# Altium schematic symbol library aiskylab-MCUs.SchLib: 242 symbols (part 3 of 21)
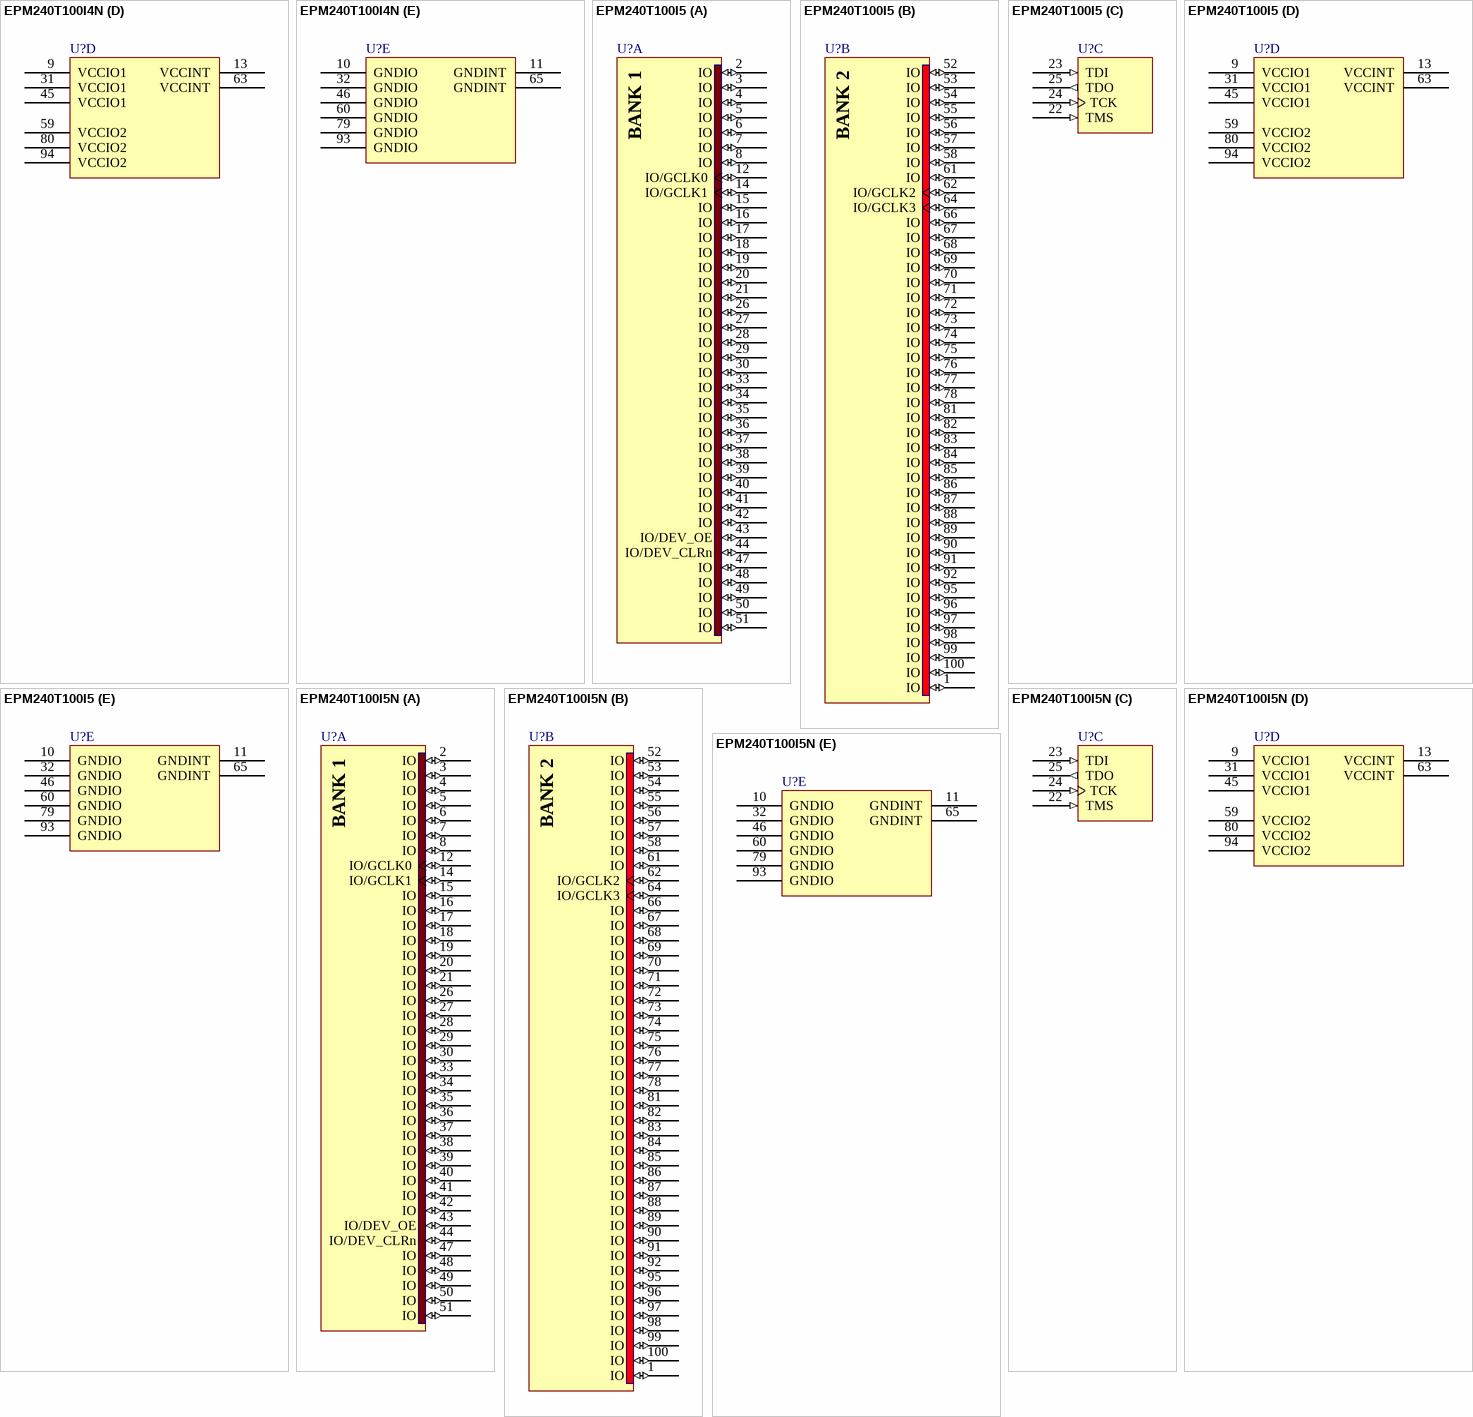
[diagram p166: symbols EPM240T100I4N to EPM240T100I5N]

## EPM240T100I4N
designator U?
MAX II 3.3/2.5V CPLD, 80 IOs, 240 Logic Elements, 100-Pin Plastic TQFP, Industrial Temperature, Speed Grade 4, Pb-Free; Note: Each set of VCCIO pins can be connected to 3.3V, 2.5V, 1.8V, or 1.5V.; Note: All VCCINT pins must be connected to either 3.3V or 2.5V (but not a combination of both).; Published: 18-Aug-2005; LatestRevisionDate: 13-Apr-2006; LatestRevisionNote: IPC-7351 Footprint Added.; DatasheetVersion: ver1.8, Jul-2006; PackageVersion: ver15.1, May-2008; PackageReference: TQFP100; Publisher: Altium Limited; PackageDescription: 100-Pin Plastic Thin Quad Flat Pack (TQFP100) - Wire Bond; Code_JEDEC: MS-026-AED; ComponentLink1Description: Manufacturer Link; ComponentLink1URL: http://www.altera.com/products/devices/cpld/max2/mx2-index.jsp; ComponentLink2Description: Handbook; ComponentLink2URL: http://www.altera.com/literature/hb/max2/max2_mii5v1.pdf; ComponentLink3Description: Packaging Specification; ComponentLink3URL: http://www.altera.com/literature/ds/dspkg.pdf
footprint TQFP100_N (Thin QFP, 100-Leads, Body 14x14mm, Pitch 0.5mm, IPC Medium Density)
footprint TQFP100_L (Thin QFP, 100-Leads, Body 14x14mm, Pitch 0.5mm, IPC High Density)
footprint TQFP100_M (Thin QFP, 100-Leads, Body 14x14mm, Pitch 0.5mm, IPC Low Density)
3D model EPM240-TQFP100 (100-Pin Plastic Thin Quad Flat Pack (TQFP100) - Wire Bond)
part A pins: 2 IO (io), 3 IO (io), 4 IO (io), 5 IO (io), 6 IO (io), 7 IO (io), 8 IO (io), 12 IO/GCLK0 (io), 14 IO/GCLK1 (io), 15 IO (io), 16 IO (io), 17 IO (io), 18 IO (io), 19 IO (io), 20 IO (io), 21 IO (io), 26 IO (io), 27 IO (io), 28 IO (io), 29 IO (io), 30 IO (io), 33 IO (io), 34 IO (io), 35 IO (io), 36 IO (io), 37 IO (io), 38 IO (io), 39 IO (io), 40 IO (io), 41 IO (io), 42 IO (io), 43 IO/DEV_OE (io), 44 IO/DEV_CLRn (io), 47 IO (io), 48 IO (io), 49 IO (io), 50 IO (io), 51 IO (io)
part B pins: 1 IO (io), 52 IO (io), 53 IO (io), 54 IO (io), 55 IO (io), 56 IO (io), 57 IO (io), 58 IO (io), 61 IO (io), 62 IO/GCLK2 (io), 64 IO/GCLK3 (io), 66 IO (io), 67 IO (io), 68 IO (io), 69 IO (io), 70 IO (io), 71 IO (io), 72 IO (io), 73 IO (io), 74 IO (io), 75 IO (io), 76 IO (io), 77 IO (io), 78 IO (io), 81 IO (io), 82 IO (io), 83 IO (io), 84 IO (io), 85 IO (io), 86 IO (io), 87 IO (io), 88 IO (io), 89 IO (io), 90 IO (io), 91 IO (io), 92 IO (io), 95 IO (io), 96 IO (io), 97 IO (io), 98 IO (io), 99 IO (io), 100 IO (io)
part C pins: 22 TMS (in), 23 TDI (in), 24 TCK (in), 25 TDO (out)
part D pins: 9 VCCIO1 (power), 13 VCCINT (power), 31 VCCIO1 (power), 45 VCCIO1 (power), 59 VCCIO2 (power), 63 VCCINT (power), 80 VCCIO2 (power), 94 VCCIO2 (power)
part E pins: 10 GNDIO (power), 11 GNDINT (power), 32 GNDIO (power), 46 GNDIO (power), 60 GNDIO (power), 65 GNDINT (power), 79 GNDIO (power), 93 GNDIO (power)
part A text: BANK 1
part B text: BANK 2

## EPM240T100I5
designator U?
MAX II 3.3/2.5V CPLD, 80 IOs, 240 Logic Elements, 100-Pin Plastic TQFP, Industrial Temperature, Speed Grade 5; Note: Each set of VCCIO pins can be connected to 3.3V, 2.5V, 1.8V, or 1.5V.; Note: All VCCINT pins must be connected to either 3.3V or 2.5V (but not a combination of both).; Published: 18-Aug-2005; LatestRevisionDate: 13-Apr-2006; LatestRevisionNote: IPC-7351 Footprint Added.; DatasheetVersion: ver1.8, Jul-2006; PackageVersion: ver15.1, May-2008; PackageReference: TQFP100; Publisher: Altium Limited; PackageDescription: 100-Pin Plastic Thin Quad Flat Pack (TQFP100) - Wire Bond; Supplier 1: Digi-Key; Supplier Part Number 1: 544-1965-ND; Code_JEDEC: MS-026-AED; ComponentLink1Description: Manufacturer Link; ComponentLink1URL: http://www.altera.com/products/devices/cpld/max2/mx2-index.jsp; ComponentLink2Description: Handbook; ComponentLink2URL: http://www.altera.com/literature/hb/max2/max2_mii5v1.pdf; ComponentLink3Description: Packaging Specification; ComponentLink3URL: http://www.altera.com/literature/ds/dspkg.pdf
footprint TQFP100_N (Thin QFP, 100-Leads, Body 14x14mm, Pitch 0.5mm, IPC Medium Density)
footprint TQFP100_L (Thin QFP, 100-Leads, Body 14x14mm, Pitch 0.5mm, IPC High Density)
footprint TQFP100_M (Thin QFP, 100-Leads, Body 14x14mm, Pitch 0.5mm, IPC Low Density)
3D model EPM240-TQFP100 (100-Pin Plastic Thin Quad Flat Pack (TQFP100) - Wire Bond)
part A pins: 2 IO (io), 3 IO (io), 4 IO (io), 5 IO (io), 6 IO (io), 7 IO (io), 8 IO (io), 12 IO/GCLK0 (io), 14 IO/GCLK1 (io), 15 IO (io), 16 IO (io), 17 IO (io), 18 IO (io), 19 IO (io), 20 IO (io), 21 IO (io), 26 IO (io), 27 IO (io), 28 IO (io), 29 IO (io), 30 IO (io), 33 IO (io), 34 IO (io), 35 IO (io), 36 IO (io), 37 IO (io), 38 IO (io), 39 IO (io), 40 IO (io), 41 IO (io), 42 IO (io), 43 IO/DEV_OE (io), 44 IO/DEV_CLRn (io), 47 IO (io), 48 IO (io), 49 IO (io), 50 IO (io), 51 IO (io)
part B pins: 1 IO (io), 52 IO (io), 53 IO (io), 54 IO (io), 55 IO (io), 56 IO (io), 57 IO (io), 58 IO (io), 61 IO (io), 62 IO/GCLK2 (io), 64 IO/GCLK3 (io), 66 IO (io), 67 IO (io), 68 IO (io), 69 IO (io), 70 IO (io), 71 IO (io), 72 IO (io), 73 IO (io), 74 IO (io), 75 IO (io), 76 IO (io), 77 IO (io), 78 IO (io), 81 IO (io), 82 IO (io), 83 IO (io), 84 IO (io), 85 IO (io), 86 IO (io), 87 IO (io), 88 IO (io), 89 IO (io), 90 IO (io), 91 IO (io), 92 IO (io), 95 IO (io), 96 IO (io), 97 IO (io), 98 IO (io), 99 IO (io), 100 IO (io)
part C pins: 22 TMS (in), 23 TDI (in), 24 TCK (in), 25 TDO (out)
part D pins: 9 VCCIO1 (power), 13 VCCINT (power), 31 VCCIO1 (power), 45 VCCIO1 (power), 59 VCCIO2 (power), 63 VCCINT (power), 80 VCCIO2 (power), 94 VCCIO2 (power)
part E pins: 10 GNDIO (power), 11 GNDINT (power), 32 GNDIO (power), 46 GNDIO (power), 60 GNDIO (power), 65 GNDINT (power), 79 GNDIO (power), 93 GNDIO (power)
part A text: BANK 1
part B text: BANK 2

## EPM240T100I5N
designator U?
MAX II 3.3/2.5V CPLD, 80 IOs, 240 Logic Elements, 100-Pin Plastic TQFP, Industrial Temperature, Speed Grade 5, Pb-Free; Note: Each set of VCCIO pins can be connected to 3.3V, 2.5V, 1.8V, or 1.5V.; Note: All VCCINT pins must be connected to either 3.3V or 2.5V (but not a combination of both).; Published: 18-Aug-2005; LatestRevisionDate: 13-Apr-2006; LatestRevisionNote: IPC-7351 Footprint Added.; DatasheetVersion: ver1.8, Jul-2006; PackageVersion: ver15.1, May-2008; PackageReference: TQFP100; Publisher: Altium Limited; PackageDescription: 100-Pin Plastic Thin Quad Flat Pack (TQFP100) - Wire Bond; Supplier 1: Digi-Key; Supplier Part Number 1: 544-2276-ND; Supplier 2: Farnell; Supplier Part Number 2: 1549468; Code_JEDEC: MS-026-AED; ComponentLink1Description: Manufacturer Link; ComponentLink1URL: http://www.altera.com/products/devices/cpld/max2/mx2-index.jsp; ComponentLink2Description: Handbook; ComponentLink2URL: http://www.altera.com/literature/hb/max2/max2_mii5v1.pdf; ComponentLink3Description: Packaging Specification; ComponentLink3URL: http://www.altera.com/literature/ds/dspkg.pdf
footprint TQFP100_N (Thin QFP, 100-Leads, Body 14x14mm, Pitch 0.5mm, IPC Medium Density)
footprint TQFP100_L (Thin QFP, 100-Leads, Body 14x14mm, Pitch 0.5mm, IPC High Density)
footprint TQFP100_M (Thin QFP, 100-Leads, Body 14x14mm, Pitch 0.5mm, IPC Low Density)
3D model EPM240-TQFP100 (100-Pin Plastic Thin Quad Flat Pack (TQFP100) - Wire Bond)
part A pins: 2 IO (io), 3 IO (io), 4 IO (io), 5 IO (io), 6 IO (io), 7 IO (io), 8 IO (io), 12 IO/GCLK0 (io), 14 IO/GCLK1 (io), 15 IO (io), 16 IO (io), 17 IO (io), 18 IO (io), 19 IO (io), 20 IO (io), 21 IO (io), 26 IO (io), 27 IO (io), 28 IO (io), 29 IO (io), 30 IO (io), 33 IO (io), 34 IO (io), 35 IO (io), 36 IO (io), 37 IO (io), 38 IO (io), 39 IO (io), 40 IO (io), 41 IO (io), 42 IO (io), 43 IO/DEV_OE (io), 44 IO/DEV_CLRn (io), 47 IO (io), 48 IO (io), 49 IO (io), 50 IO (io), 51 IO (io)
part B pins: 1 IO (io), 52 IO (io), 53 IO (io), 54 IO (io), 55 IO (io), 56 IO (io), 57 IO (io), 58 IO (io), 61 IO (io), 62 IO/GCLK2 (io), 64 IO/GCLK3 (io), 66 IO (io), 67 IO (io), 68 IO (io), 69 IO (io), 70 IO (io), 71 IO (io), 72 IO (io), 73 IO (io), 74 IO (io), 75 IO (io), 76 IO (io), 77 IO (io), 78 IO (io), 81 IO (io), 82 IO (io), 83 IO (io), 84 IO (io), 85 IO (io), 86 IO (io), 87 IO (io), 88 IO (io), 89 IO (io), 90 IO (io), 91 IO (io), 92 IO (io), 95 IO (io), 96 IO (io), 97 IO (io), 98 IO (io), 99 IO (io), 100 IO (io)
part C pins: 22 TMS (in), 23 TDI (in), 24 TCK (in), 25 TDO (out)
part D pins: 9 VCCIO1 (power), 13 VCCINT (power), 31 VCCIO1 (power), 45 VCCIO1 (power), 59 VCCIO2 (power), 63 VCCINT (power), 80 VCCIO2 (power), 94 VCCIO2 (power)
part E pins: 10 GNDIO (power), 11 GNDINT (power), 32 GNDIO (power), 46 GNDIO (power), 60 GNDIO (power), 65 GNDINT (power), 79 GNDIO (power), 93 GNDIO (power)
part A text: BANK 1
part B text: BANK 2

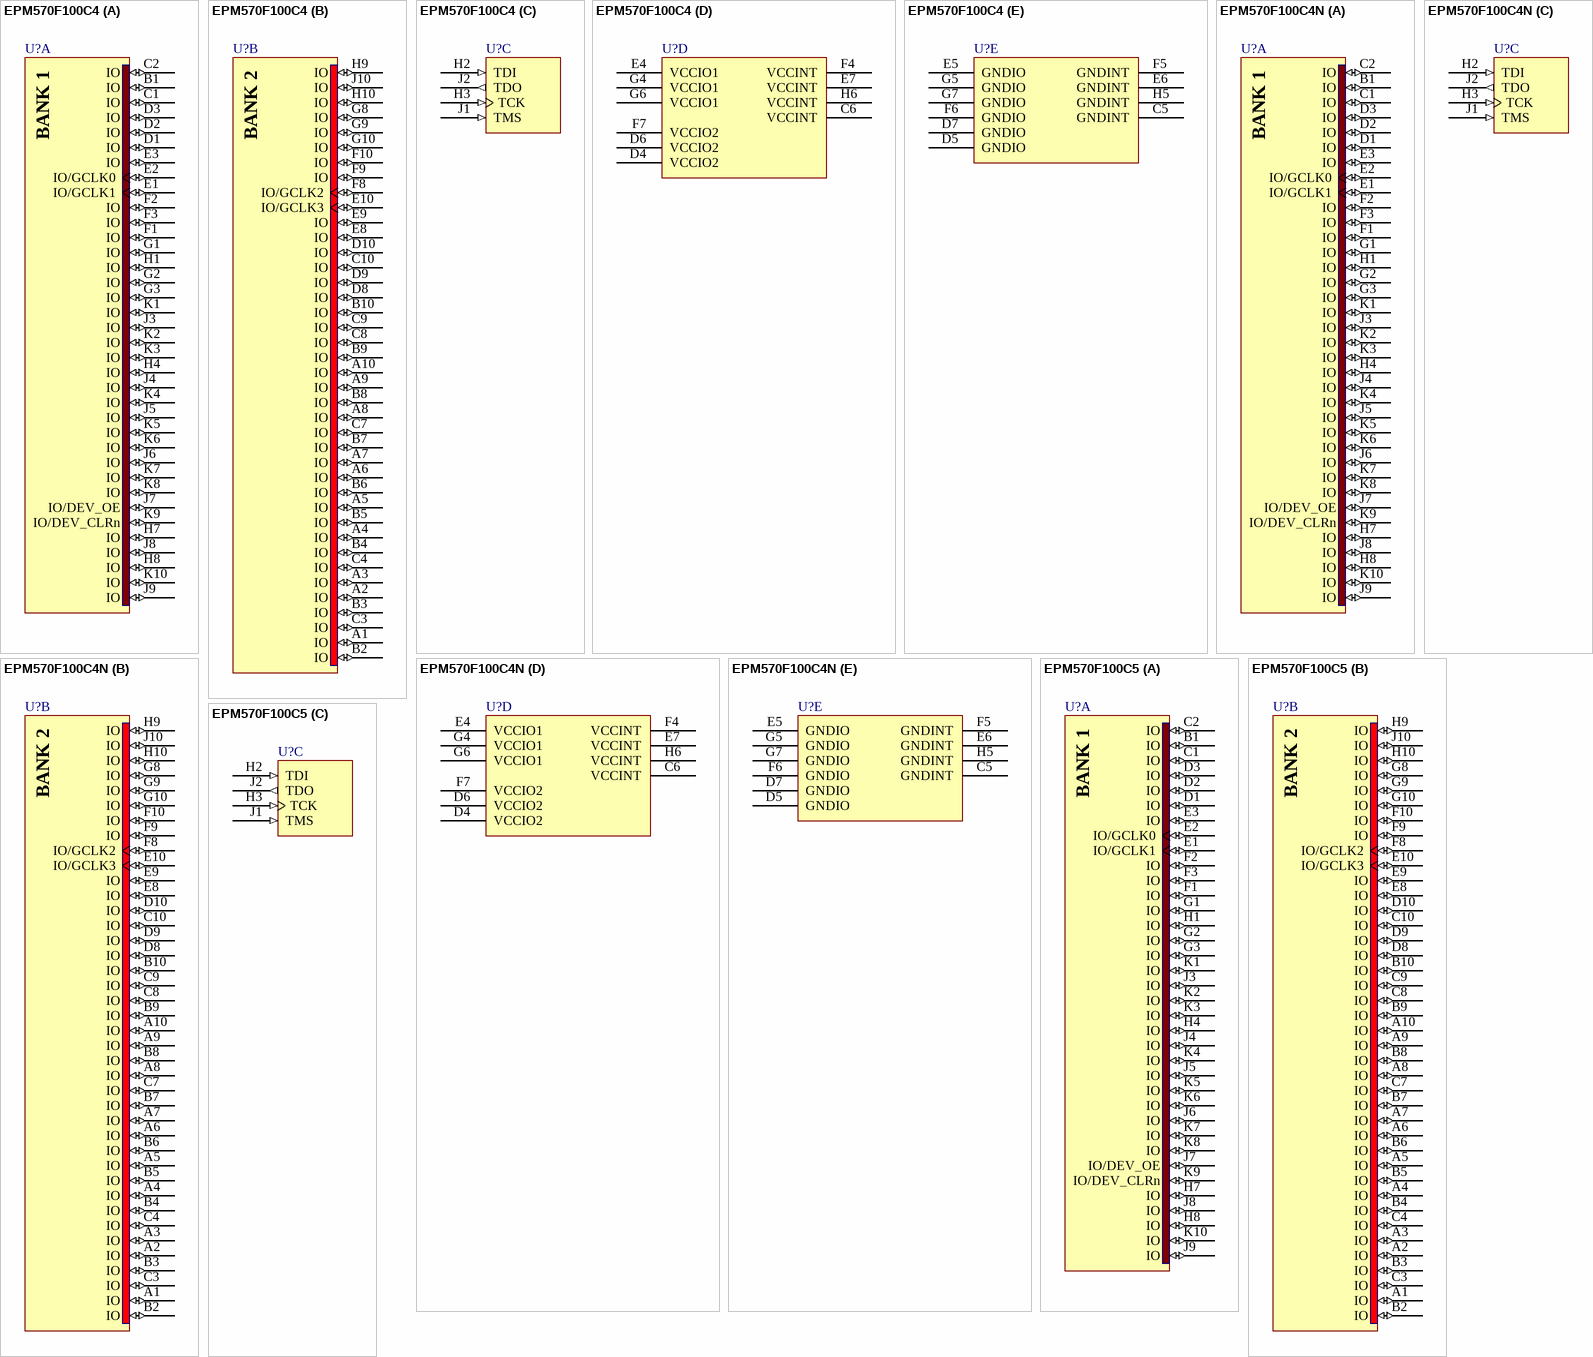
[diagram p16: symbols EPM570F100C4 to EPM570F100C5]

## EPM570F100C4
designator U?
MAX II 3.3/2.5V CPLD, 76 IOs, 570 Logic Elements, 100-Pin Fineline BGA, Commercial Temperature, Speed Grade 4; Note: Each set of VCCIO pins can be connected to 3.3V, 2.5V, 1.8V, or 1.5V.; Note: All VCCINT pins must be connected to either 3.3V or 2.5V (but not a combination of both).; Published: 31-Jul-2006; DatasheetVersion: ver1.8, Jul-2006; PackageVersion: ver15.1, May-2008; PackageReference: FBGA100_2; Publisher: Altium Limited; PackageDescription: 100-Ball FineLine Ball Grid Array (FBGA100) - Option 2 - Wire Bond; Code_JEDEC: MO-192-DAC-1; ComponentLink1Description: Manufacturer Link; ComponentLink1URL: http://www.altera.com/products/devices/cpld/max2/mx2-index.jsp; ComponentLink2Description: Handbook; ComponentLink2URL: http://www.altera.com/literature/hb/max2/max2_mii5v1.pdf; ComponentLink3Description: Packaging Specification; ComponentLink3URL: http://www.altera.com/literature/ds/dspkg.pdf
footprint FBGA100_2 (BGA, 100-Leads, Body 11x11mm, Pitch 1mm)
3D model EPM570-FBGA100 (100-Ball FineLine Ball Grid Array (FBGA100) - Option 2 - Wire Bond)
part A pins: B1 IO (io), C1 IO (io), C2 IO (io), D1 IO (io), D2 IO (io), D3 IO (io), E1 IO/GCLK1 (io), E2 IO/GCLK0 (io), E3 IO (io), F1 IO (io), F2 IO (io), F3 IO (io), G1 IO (io), G2 IO (io), G3 IO (io), H1 IO (io), H4 IO (io), H7 IO (io), H8 IO (io), J3 IO (io), J4 IO (io), J5 IO (io), J6 IO (io), J7 IO/DEV_OE (io), J8 IO (io), J9 IO (io), K1 IO (io), K2 IO (io), K3 IO (io), K4 IO (io), K5 IO (io), K6 IO (io), K7 IO (io), K8 IO (io), K9 IO/DEV_CLRn (io), K10 IO (io)
part B pins: A1 IO (io), A2 IO (io), A3 IO (io), A4 IO (io), A5 IO (io), A6 IO (io), A7 IO (io), A8 IO (io), A9 IO (io), A10 IO (io), B2 IO (io), B3 IO (io), B4 IO (io), B5 IO (io), B6 IO (io), B7 IO (io), B8 IO (io), B9 IO (io), B10 IO (io), C3 IO (io), C4 IO (io), C7 IO (io), C8 IO (io), C9 IO (io), C10 IO (io), D8 IO (io), D9 IO (io), D10 IO (io), E8 IO (io), E9 IO (io), E10 IO/GCLK3 (io), F8 IO/GCLK2 (io), F9 IO (io), F10 IO (io), G8 IO (io), G9 IO (io), G10 IO (io), H9 IO (io), H10 IO (io), J10 IO (io)
part C pins: H2 TDI (in), H3 TCK (in), J1 TMS (in), J2 TDO (out)
part D pins: C6 VCCINT (power), D4 VCCIO2 (power), D6 VCCIO2 (power), E4 VCCIO1 (power), E7 VCCINT (power), F4 VCCINT (power), F7 VCCIO2 (power), G4 VCCIO1 (power), G6 VCCIO1 (power), H6 VCCINT (power)
part E pins: C5 GNDINT (power), D5 GNDIO (power), D7 GNDIO (power), E5 GNDIO (power), E6 GNDINT (power), F5 GNDINT (power), F6 GNDIO (power), G5 GNDIO (power), G7 GNDIO (power), H5 GNDINT (power)
part A text: BANK 1
part B text: BANK 2

## EPM570F100C4N
designator U?
MAX II 3.3/2.5V CPLD, 76 IOs, 570 Logic Elements, 100-Pin Fineline BGA, Commercial Temperature, Speed Grade 4, Pb-Free; Note: Each set of VCCIO pins can be connected to 3.3V, 2.5V, 1.8V, or 1.5V.; Note: All VCCINT pins must be connected to either 3.3V or 2.5V (but not a combination of both).; Published: 31-Jul-2006; DatasheetVersion: ver1.8, Jul-2006; PackageVersion: ver15.1, May-2008; PackageReference: FBGA100_2; Publisher: Altium Limited; PackageDescription: 100-Ball FineLine Ball Grid Array (FBGA100) - Option 2 - Wire Bond; Supplier 1: Digi-Key; Supplier Part Number 1: 544-1716-ND; Code_JEDEC: MO-192-DAC-1; ComponentLink1Description: Manufacturer Link; ComponentLink1URL: http://www.altera.com/products/devices/cpld/max2/mx2-index.jsp; ComponentLink2Description: Handbook; ComponentLink2URL: http://www.altera.com/literature/hb/max2/max2_mii5v1.pdf; ComponentLink3Description: Packaging Specification; ComponentLink3URL: http://www.altera.com/literature/ds/dspkg.pdf
footprint FBGA100_2 (BGA, 100-Leads, Body 11x11mm, Pitch 1mm)
3D model EPM570-FBGA100 (100-Ball FineLine Ball Grid Array (FBGA100) - Option 2 - Wire Bond)
part A pins: B1 IO (io), C1 IO (io), C2 IO (io), D1 IO (io), D2 IO (io), D3 IO (io), E1 IO/GCLK1 (io), E2 IO/GCLK0 (io), E3 IO (io), F1 IO (io), F2 IO (io), F3 IO (io), G1 IO (io), G2 IO (io), G3 IO (io), H1 IO (io), H4 IO (io), H7 IO (io), H8 IO (io), J3 IO (io), J4 IO (io), J5 IO (io), J6 IO (io), J7 IO/DEV_OE (io), J8 IO (io), J9 IO (io), K1 IO (io), K2 IO (io), K3 IO (io), K4 IO (io), K5 IO (io), K6 IO (io), K7 IO (io), K8 IO (io), K9 IO/DEV_CLRn (io), K10 IO (io)
part B pins: A1 IO (io), A2 IO (io), A3 IO (io), A4 IO (io), A5 IO (io), A6 IO (io), A7 IO (io), A8 IO (io), A9 IO (io), A10 IO (io), B2 IO (io), B3 IO (io), B4 IO (io), B5 IO (io), B6 IO (io), B7 IO (io), B8 IO (io), B9 IO (io), B10 IO (io), C3 IO (io), C4 IO (io), C7 IO (io), C8 IO (io), C9 IO (io), C10 IO (io), D8 IO (io), D9 IO (io), D10 IO (io), E8 IO (io), E9 IO (io), E10 IO/GCLK3 (io), F8 IO/GCLK2 (io), F9 IO (io), F10 IO (io), G8 IO (io), G9 IO (io), G10 IO (io), H9 IO (io), H10 IO (io), J10 IO (io)
part C pins: H2 TDI (in), H3 TCK (in), J1 TMS (in), J2 TDO (out)
part D pins: C6 VCCINT (power), D4 VCCIO2 (power), D6 VCCIO2 (power), E4 VCCIO1 (power), E7 VCCINT (power), F4 VCCINT (power), F7 VCCIO2 (power), G4 VCCIO1 (power), G6 VCCIO1 (power), H6 VCCINT (power)
part E pins: C5 GNDINT (power), D5 GNDIO (power), D7 GNDIO (power), E5 GNDIO (power), E6 GNDINT (power), F5 GNDINT (power), F6 GNDIO (power), G5 GNDIO (power), G7 GNDIO (power), H5 GNDINT (power)
part A text: BANK 1
part B text: BANK 2

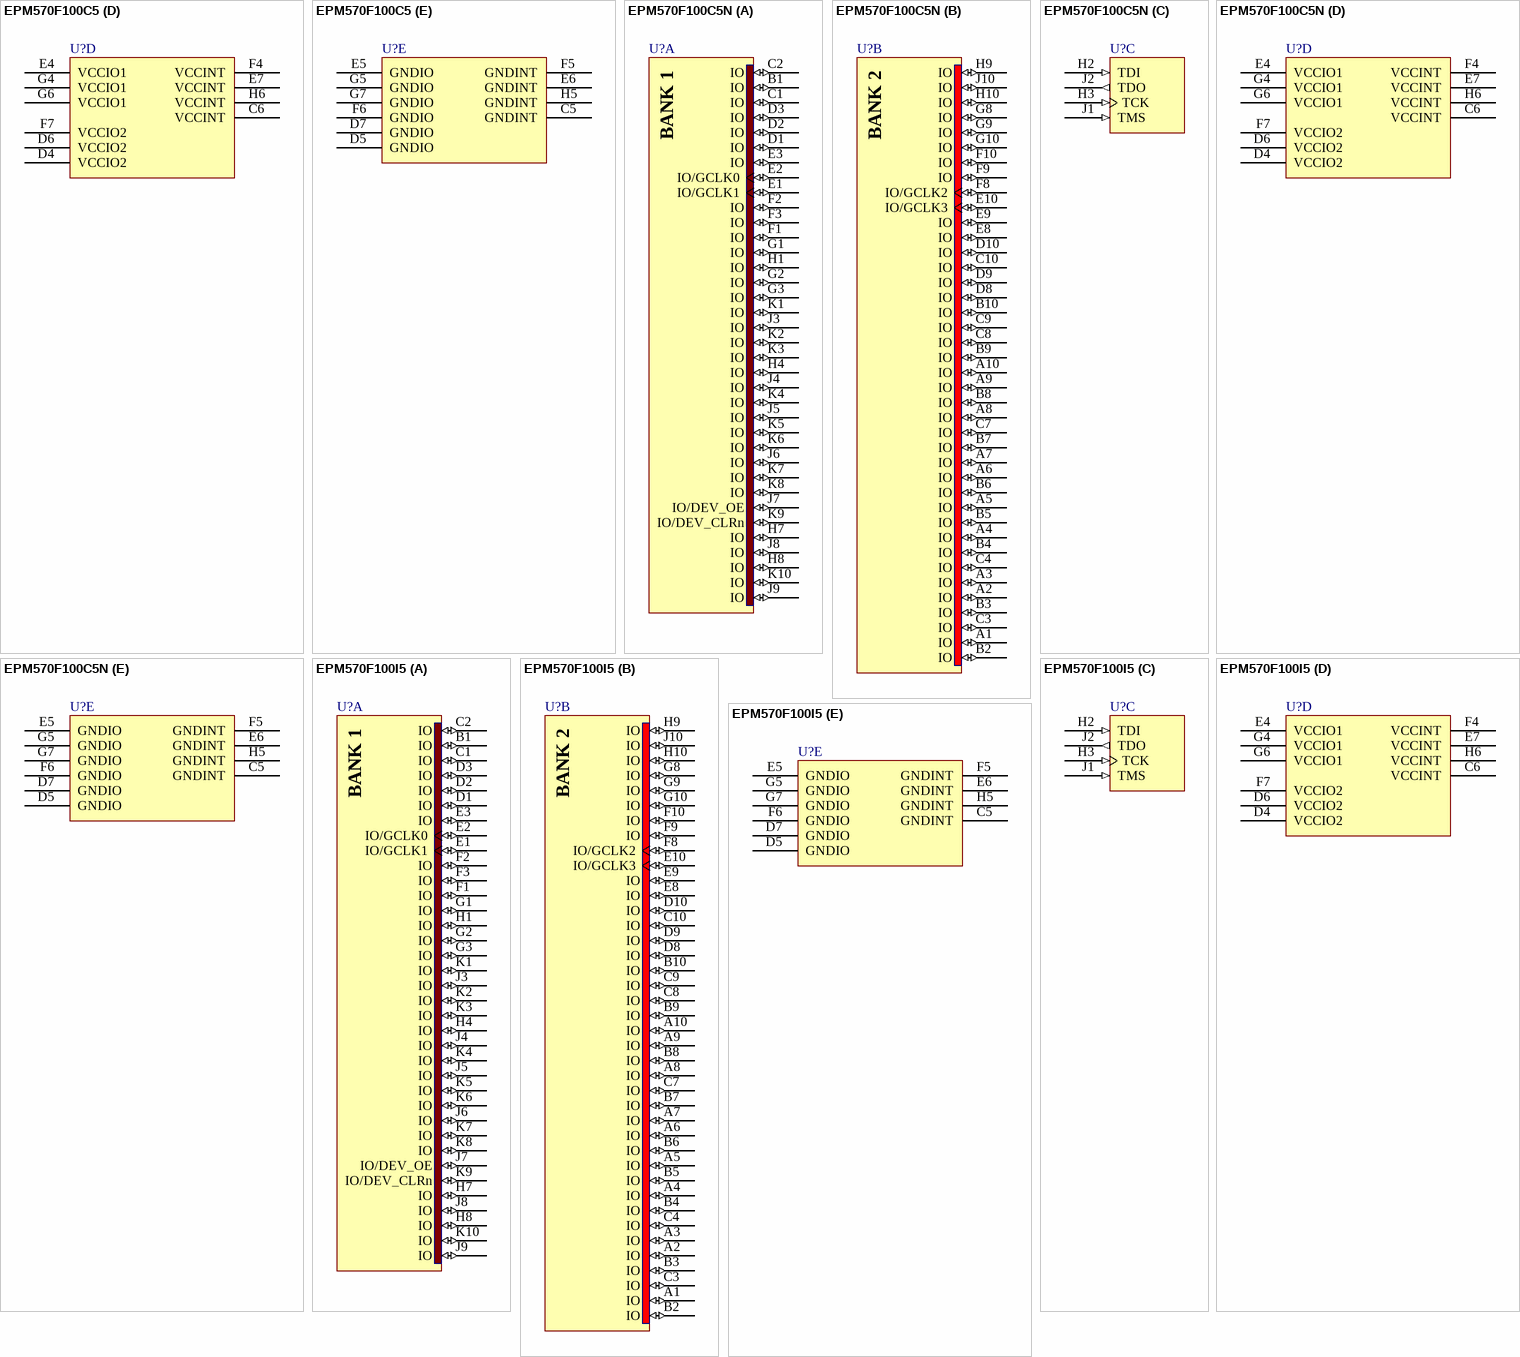
[diagram p17: symbols EPM570F100C5 to EPM570F100I5]

## EPM570F100C5
designator U?
MAX II 3.3/2.5V CPLD, 76 IOs, 570 Logic Elements, 100-Pin Fineline BGA, Commercial Temperature, Speed Grade 5; Note: Each set of VCCIO pins can be connected to 3.3V, 2.5V, 1.8V, or 1.5V.; Note: All VCCINT pins must be connected to either 3.3V or 2.5V (but not a combination of both).; Published: 31-Jul-2006; DatasheetVersion: ver1.8, Jul-2006; PackageVersion: ver15.1, May-2008; PackageReference: FBGA100_2; Publisher: Altium Limited; PackageDescription: 100-Ball FineLine Ball Grid Array (FBGA100) - Option 2 - Wire Bond; Code_JEDEC: MO-192-DAC-1; ComponentLink1Description: Manufacturer Link; ComponentLink1URL: http://www.altera.com/products/devices/cpld/max2/mx2-index.jsp; ComponentLink2Description: Handbook; ComponentLink2URL: http://www.altera.com/literature/hb/max2/max2_mii5v1.pdf; ComponentLink3Description: Packaging Specification; ComponentLink3URL: http://www.altera.com/literature/ds/dspkg.pdf
footprint FBGA100_2 (BGA, 100-Leads, Body 11x11mm, Pitch 1mm)
3D model EPM570-FBGA100 (100-Ball FineLine Ball Grid Array (FBGA100) - Option 2 - Wire Bond)
part A pins: B1 IO (io), C1 IO (io), C2 IO (io), D1 IO (io), D2 IO (io), D3 IO (io), E1 IO/GCLK1 (io), E2 IO/GCLK0 (io), E3 IO (io), F1 IO (io), F2 IO (io), F3 IO (io), G1 IO (io), G2 IO (io), G3 IO (io), H1 IO (io), H4 IO (io), H7 IO (io), H8 IO (io), J3 IO (io), J4 IO (io), J5 IO (io), J6 IO (io), J7 IO/DEV_OE (io), J8 IO (io), J9 IO (io), K1 IO (io), K2 IO (io), K3 IO (io), K4 IO (io), K5 IO (io), K6 IO (io), K7 IO (io), K8 IO (io), K9 IO/DEV_CLRn (io), K10 IO (io)
part B pins: A1 IO (io), A2 IO (io), A3 IO (io), A4 IO (io), A5 IO (io), A6 IO (io), A7 IO (io), A8 IO (io), A9 IO (io), A10 IO (io), B2 IO (io), B3 IO (io), B4 IO (io), B5 IO (io), B6 IO (io), B7 IO (io), B8 IO (io), B9 IO (io), B10 IO (io), C3 IO (io), C4 IO (io), C7 IO (io), C8 IO (io), C9 IO (io), C10 IO (io), D8 IO (io), D9 IO (io), D10 IO (io), E8 IO (io), E9 IO (io), E10 IO/GCLK3 (io), F8 IO/GCLK2 (io), F9 IO (io), F10 IO (io), G8 IO (io), G9 IO (io), G10 IO (io), H9 IO (io), H10 IO (io), J10 IO (io)
part C pins: H2 TDI (in), H3 TCK (in), J1 TMS (in), J2 TDO (out)
part D pins: C6 VCCINT (power), D4 VCCIO2 (power), D6 VCCIO2 (power), E4 VCCIO1 (power), E7 VCCINT (power), F4 VCCINT (power), F7 VCCIO2 (power), G4 VCCIO1 (power), G6 VCCIO1 (power), H6 VCCINT (power)
part E pins: C5 GNDINT (power), D5 GNDIO (power), D7 GNDIO (power), E5 GNDIO (power), E6 GNDINT (power), F5 GNDINT (power), F6 GNDIO (power), G5 GNDIO (power), G7 GNDIO (power), H5 GNDINT (power)
part A text: BANK 1
part B text: BANK 2

## EPM570F100C5N
designator U?
MAX II 3.3/2.5V CPLD, 76 IOs, 570 Logic Elements, 100-Pin Fineline BGA, Commercial Temperature, Speed Grade 5, Pb-Free; Note: Each set of VCCIO pins can be connected to 3.3V, 2.5V, 1.8V, or 1.5V.; Note: All VCCINT pins must be connected to either 3.3V or 2.5V (but not a combination of both).; Published: 31-Jul-2006; DatasheetVersion: ver1.8, Jul-2006; PackageVersion: ver15.1, May-2008; PackageReference: FBGA100_2; Publisher: Altium Limited; PackageDescription: 100-Ball FineLine Ball Grid Array (FBGA100) - Option 2 - Wire Bond; Supplier 1: Digi-Key; Supplier Part Number 1: 544-1715-ND; Supplier 2: Farnell; Supplier Part Number 2: 1635096; Code_JEDEC: MO-192-DAC-1; ComponentLink1Description: Manufacturer Link; ComponentLink1URL: http://www.altera.com/products/devices/cpld/max2/mx2-index.jsp; ComponentLink2Description: Handbook; ComponentLink2URL: http://www.altera.com/literature/hb/max2/max2_mii5v1.pdf; ComponentLink3Description: Packaging Specification; ComponentLink3URL: http://www.altera.com/literature/ds/dspkg.pdf
footprint FBGA100_2 (BGA, 100-Leads, Body 11x11mm, Pitch 1mm)
3D model EPM570-FBGA100 (100-Ball FineLine Ball Grid Array (FBGA100) - Option 2 - Wire Bond)
part A pins: B1 IO (io), C1 IO (io), C2 IO (io), D1 IO (io), D2 IO (io), D3 IO (io), E1 IO/GCLK1 (io), E2 IO/GCLK0 (io), E3 IO (io), F1 IO (io), F2 IO (io), F3 IO (io), G1 IO (io), G2 IO (io), G3 IO (io), H1 IO (io), H4 IO (io), H7 IO (io), H8 IO (io), J3 IO (io), J4 IO (io), J5 IO (io), J6 IO (io), J7 IO/DEV_OE (io), J8 IO (io), J9 IO (io), K1 IO (io), K2 IO (io), K3 IO (io), K4 IO (io), K5 IO (io), K6 IO (io), K7 IO (io), K8 IO (io), K9 IO/DEV_CLRn (io), K10 IO (io)
part B pins: A1 IO (io), A2 IO (io), A3 IO (io), A4 IO (io), A5 IO (io), A6 IO (io), A7 IO (io), A8 IO (io), A9 IO (io), A10 IO (io), B2 IO (io), B3 IO (io), B4 IO (io), B5 IO (io), B6 IO (io), B7 IO (io), B8 IO (io), B9 IO (io), B10 IO (io), C3 IO (io), C4 IO (io), C7 IO (io), C8 IO (io), C9 IO (io), C10 IO (io), D8 IO (io), D9 IO (io), D10 IO (io), E8 IO (io), E9 IO (io), E10 IO/GCLK3 (io), F8 IO/GCLK2 (io), F9 IO (io), F10 IO (io), G8 IO (io), G9 IO (io), G10 IO (io), H9 IO (io), H10 IO (io), J10 IO (io)
part C pins: H2 TDI (in), H3 TCK (in), J1 TMS (in), J2 TDO (out)
part D pins: C6 VCCINT (power), D4 VCCIO2 (power), D6 VCCIO2 (power), E4 VCCIO1 (power), E7 VCCINT (power), F4 VCCINT (power), F7 VCCIO2 (power), G4 VCCIO1 (power), G6 VCCIO1 (power), H6 VCCINT (power)
part E pins: C5 GNDINT (power), D5 GNDIO (power), D7 GNDIO (power), E5 GNDIO (power), E6 GNDINT (power), F5 GNDINT (power), F6 GNDIO (power), G5 GNDIO (power), G7 GNDIO (power), H5 GNDINT (power)
part A text: BANK 1
part B text: BANK 2

## EPM570F100I5
designator U?
MAX II 3.3/2.5V CPLD, 76 IOs, 570 Logic Elements, 100-Pin Fineline BGA, Industrial Temperature, Speed Grade 5; Note: Each set of VCCIO pins can be connected to 3.3V, 2.5V, 1.8V, or 1.5V.; Note: All VCCINT pins must be connected to either 3.3V or 2.5V (but not a combination of both).; Published: 31-Jul-2006; DatasheetVersion: ver1.8, Jul-2006; PackageVersion: ver15.1, May-2008; PackageReference: FBGA100_2; Publisher: Altium Limited; PackageDescription: 100-Ball FineLine Ball Grid Array (FBGA100) - Option 2 - Wire Bond; Code_JEDEC: MO-192-DAC-1; ComponentLink1Description: Manufacturer Link; ComponentLink1URL: http://www.altera.com/products/devices/cpld/max2/mx2-index.jsp; ComponentLink2Description: Handbook; ComponentLink2URL: http://www.altera.com/literature/hb/max2/max2_mii5v1.pdf; ComponentLink3Description: Packaging Specification; ComponentLink3URL: http://www.altera.com/literature/ds/dspkg.pdf
footprint FBGA100_2 (BGA, 100-Leads, Body 11x11mm, Pitch 1mm)
3D model EPM570-FBGA100 (100-Ball FineLine Ball Grid Array (FBGA100) - Option 2 - Wire Bond)
part A pins: B1 IO (io), C1 IO (io), C2 IO (io), D1 IO (io), D2 IO (io), D3 IO (io), E1 IO/GCLK1 (io), E2 IO/GCLK0 (io), E3 IO (io), F1 IO (io), F2 IO (io), F3 IO (io), G1 IO (io), G2 IO (io), G3 IO (io), H1 IO (io), H4 IO (io), H7 IO (io), H8 IO (io), J3 IO (io), J4 IO (io), J5 IO (io), J6 IO (io), J7 IO/DEV_OE (io), J8 IO (io), J9 IO (io), K1 IO (io), K2 IO (io), K3 IO (io), K4 IO (io), K5 IO (io), K6 IO (io), K7 IO (io), K8 IO (io), K9 IO/DEV_CLRn (io), K10 IO (io)
part B pins: A1 IO (io), A2 IO (io), A3 IO (io), A4 IO (io), A5 IO (io), A6 IO (io), A7 IO (io), A8 IO (io), A9 IO (io), A10 IO (io), B2 IO (io), B3 IO (io), B4 IO (io), B5 IO (io), B6 IO (io), B7 IO (io), B8 IO (io), B9 IO (io), B10 IO (io), C3 IO (io), C4 IO (io), C7 IO (io), C8 IO (io), C9 IO (io), C10 IO (io), D8 IO (io), D9 IO (io), D10 IO (io), E8 IO (io), E9 IO (io), E10 IO/GCLK3 (io), F8 IO/GCLK2 (io), F9 IO (io), F10 IO (io), G8 IO (io), G9 IO (io), G10 IO (io), H9 IO (io), H10 IO (io), J10 IO (io)
part C pins: H2 TDI (in), H3 TCK (in), J1 TMS (in), J2 TDO (out)
part D pins: C6 VCCINT (power), D4 VCCIO2 (power), D6 VCCIO2 (power), E4 VCCIO1 (power), E7 VCCINT (power), F4 VCCINT (power), F7 VCCIO2 (power), G4 VCCIO1 (power), G6 VCCIO1 (power), H6 VCCINT (power)
part E pins: C5 GNDINT (power), D5 GNDIO (power), D7 GNDIO (power), E5 GNDIO (power), E6 GNDINT (power), F5 GNDINT (power), F6 GNDIO (power), G5 GNDIO (power), G7 GNDIO (power), H5 GNDINT (power)
part A text: BANK 1
part B text: BANK 2

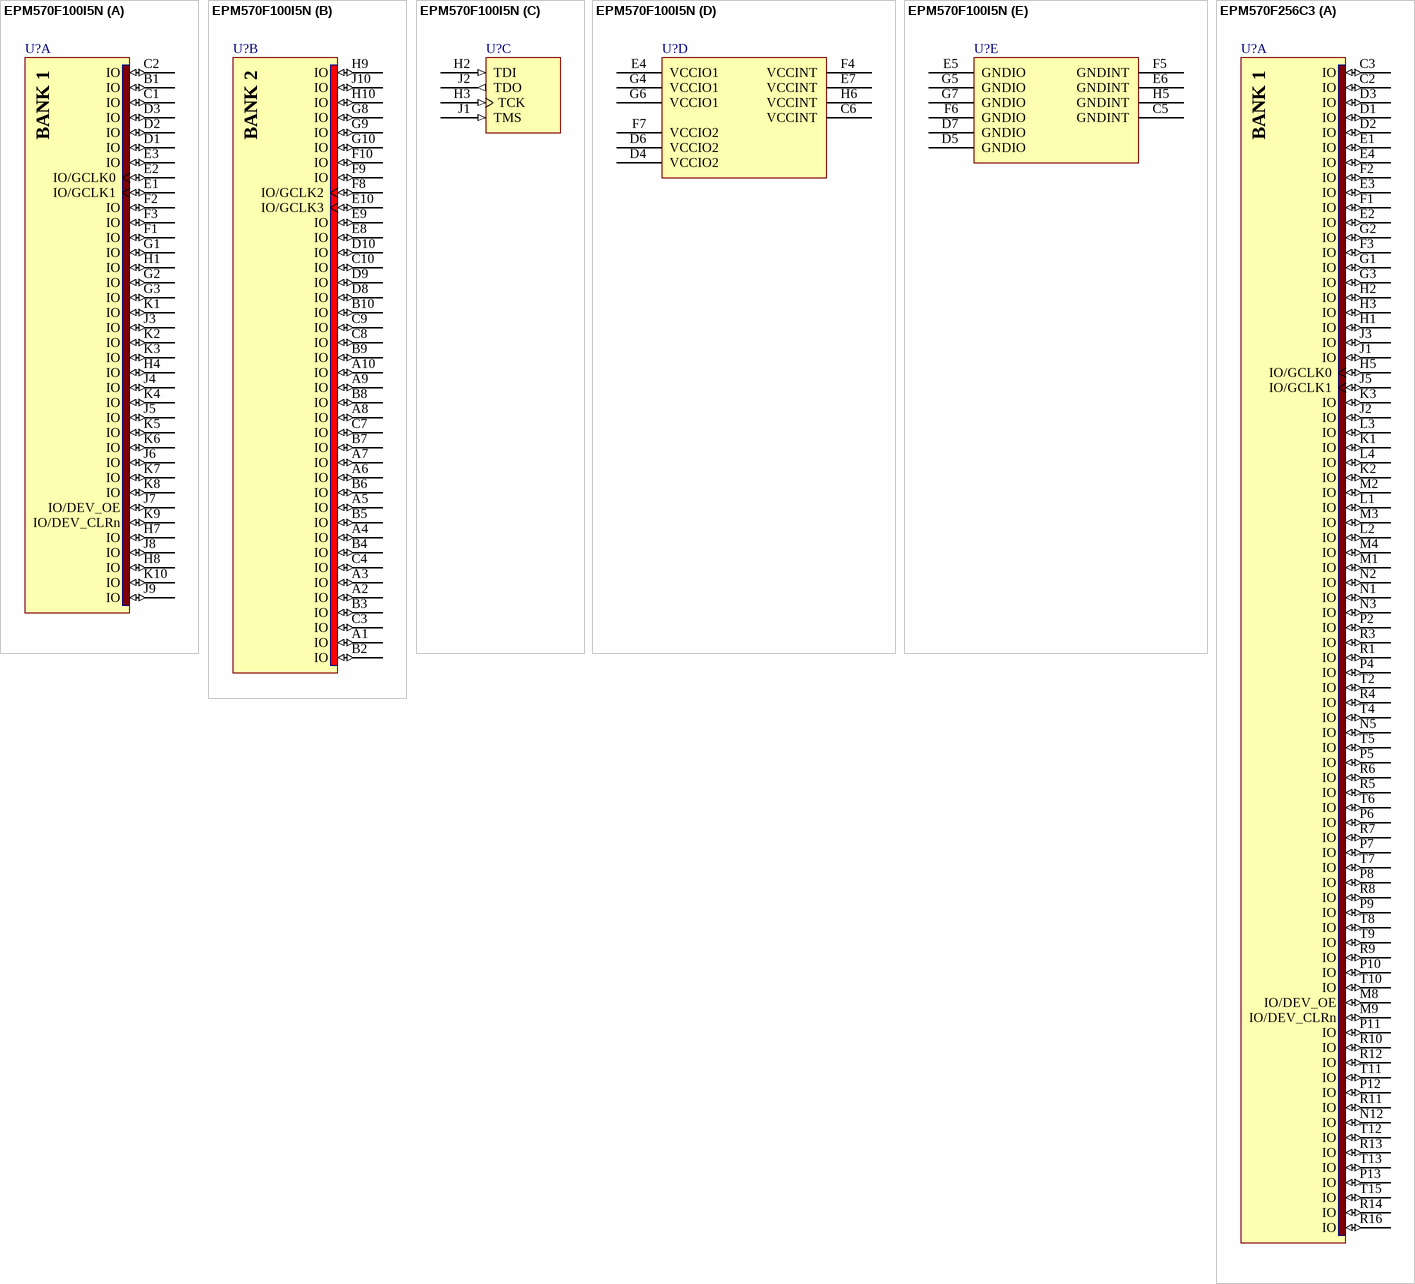
[diagram p18: symbols EPM570F100I5N to EPM570F256C3]

## EPM570F100I5N
designator U?
MAX II 3.3/2.5V CPLD, 76 IOs, 570 Logic Elements, 100-Pin Fineline BGA, Industrial Temperature, Speed Grade 5, Pb-Free; Note: Each set of VCCIO pins can be connected to 3.3V, 2.5V, 1.8V, or 1.5V.; Note: All VCCINT pins must be connected to either 3.3V or 2.5V (but not a combination of both).; Published: 31-Jul-2006; DatasheetVersion: ver1.8, Jul-2006; PackageVersion: ver15.1, May-2008; PackageReference: FBGA100_2; Publisher: Altium Limited; PackageDescription: 100-Ball FineLine Ball Grid Array (FBGA100) - Option 2 - Wire Bond; Supplier 1: Digi-Key; Supplier Part Number 1: 544-1717-ND; Code_JEDEC: MO-192-DAC-1; ComponentLink1Description: Manufacturer Link; ComponentLink1URL: http://www.altera.com/products/devices/cpld/max2/mx2-index.jsp; ComponentLink2Description: Handbook; ComponentLink2URL: http://www.altera.com/literature/hb/max2/max2_mii5v1.pdf; ComponentLink3Description: Packaging Specification; ComponentLink3URL: http://www.altera.com/literature/ds/dspkg.pdf
footprint FBGA100_2 (BGA, 100-Leads, Body 11x11mm, Pitch 1mm)
3D model EPM570-FBGA100 (100-Ball FineLine Ball Grid Array (FBGA100) - Option 2 - Wire Bond)
part A pins: B1 IO (io), C1 IO (io), C2 IO (io), D1 IO (io), D2 IO (io), D3 IO (io), E1 IO/GCLK1 (io), E2 IO/GCLK0 (io), E3 IO (io), F1 IO (io), F2 IO (io), F3 IO (io), G1 IO (io), G2 IO (io), G3 IO (io), H1 IO (io), H4 IO (io), H7 IO (io), H8 IO (io), J3 IO (io), J4 IO (io), J5 IO (io), J6 IO (io), J7 IO/DEV_OE (io), J8 IO (io), J9 IO (io), K1 IO (io), K2 IO (io), K3 IO (io), K4 IO (io), K5 IO (io), K6 IO (io), K7 IO (io), K8 IO (io), K9 IO/DEV_CLRn (io), K10 IO (io)
part B pins: A1 IO (io), A2 IO (io), A3 IO (io), A4 IO (io), A5 IO (io), A6 IO (io), A7 IO (io), A8 IO (io), A9 IO (io), A10 IO (io), B2 IO (io), B3 IO (io), B4 IO (io), B5 IO (io), B6 IO (io), B7 IO (io), B8 IO (io), B9 IO (io), B10 IO (io), C3 IO (io), C4 IO (io), C7 IO (io), C8 IO (io), C9 IO (io), C10 IO (io), D8 IO (io), D9 IO (io), D10 IO (io), E8 IO (io), E9 IO (io), E10 IO/GCLK3 (io), F8 IO/GCLK2 (io), F9 IO (io), F10 IO (io), G8 IO (io), G9 IO (io), G10 IO (io), H9 IO (io), H10 IO (io), J10 IO (io)
part C pins: H2 TDI (in), H3 TCK (in), J1 TMS (in), J2 TDO (out)
part D pins: C6 VCCINT (power), D4 VCCIO2 (power), D6 VCCIO2 (power), E4 VCCIO1 (power), E7 VCCINT (power), F4 VCCINT (power), F7 VCCIO2 (power), G4 VCCIO1 (power), G6 VCCIO1 (power), H6 VCCINT (power)
part E pins: C5 GNDINT (power), D5 GNDIO (power), D7 GNDIO (power), E5 GNDIO (power), E6 GNDINT (power), F5 GNDINT (power), F6 GNDIO (power), G5 GNDIO (power), G7 GNDIO (power), H5 GNDINT (power)
part A text: BANK 1
part B text: BANK 2

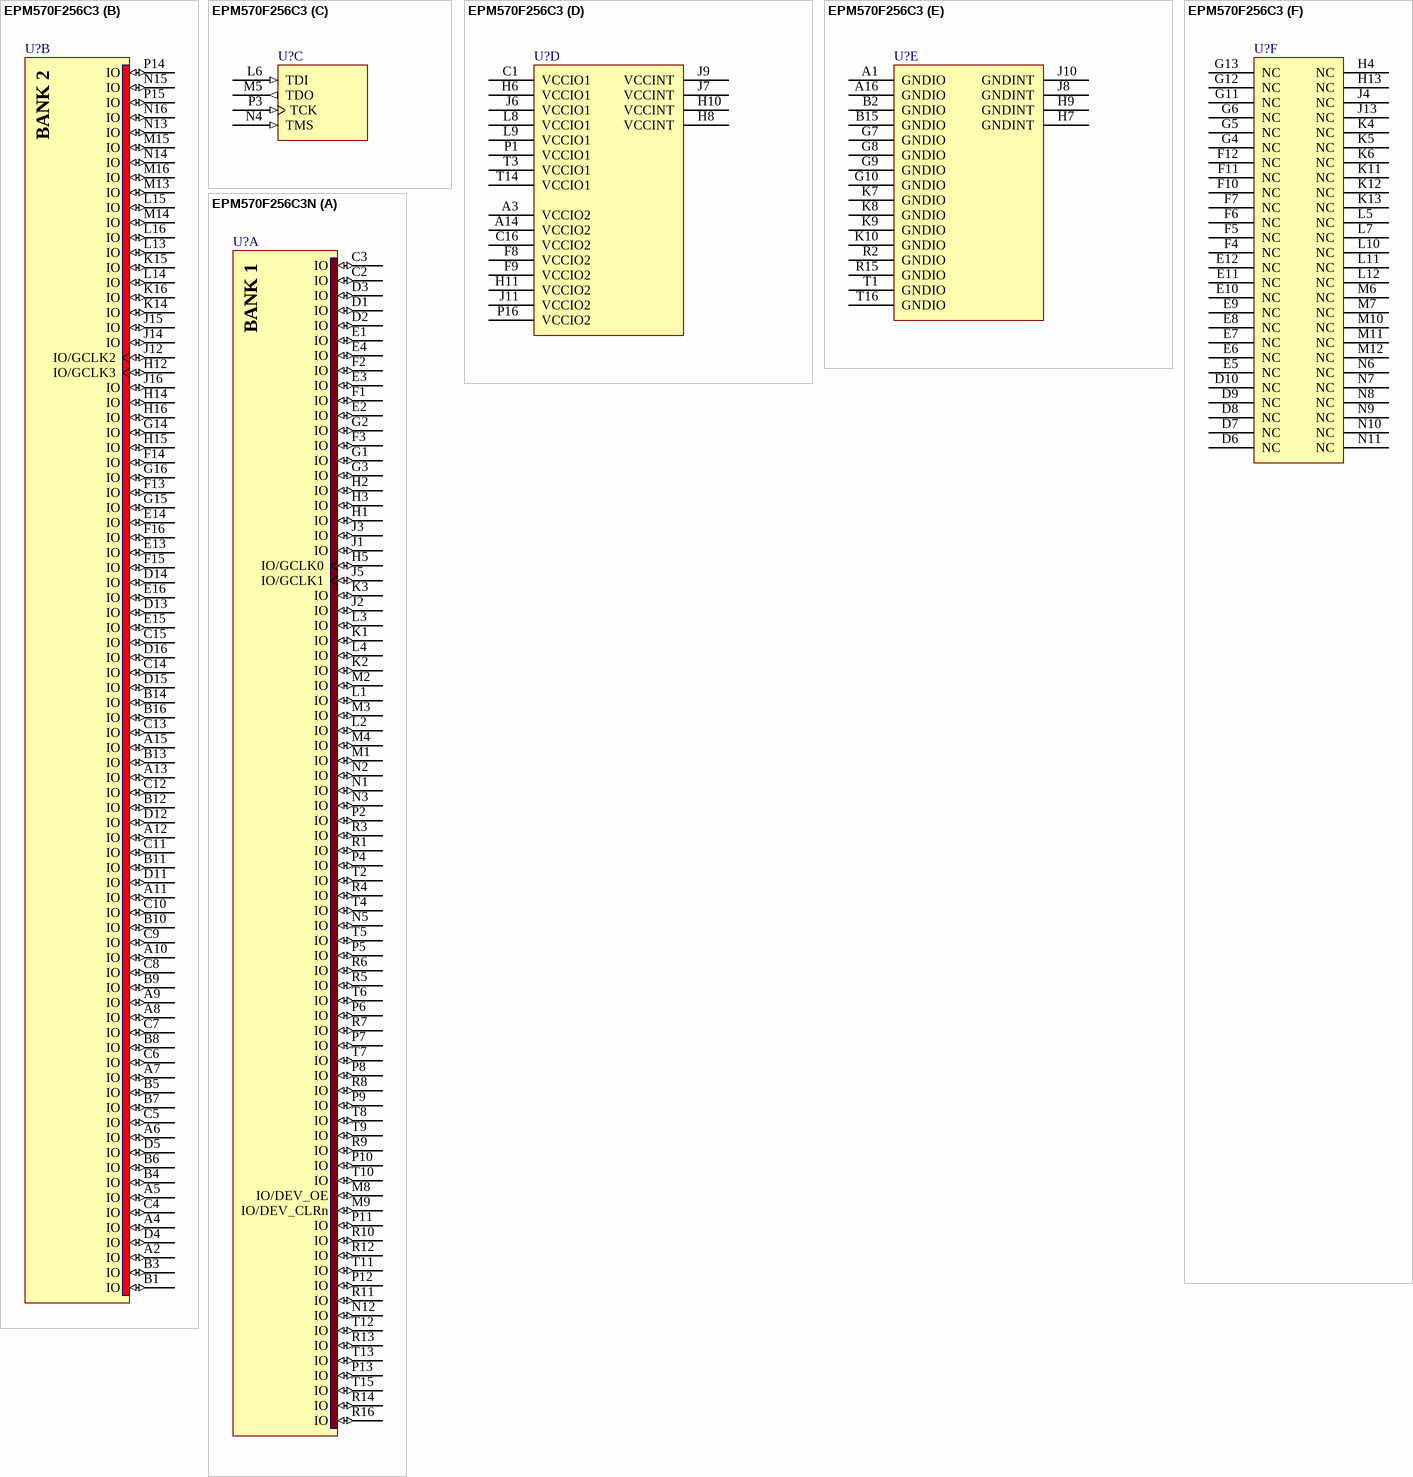
[diagram p19: symbols EPM570F256C3 to EPM570F256C3N]

## EPM570F256C3
designator U?
MAX II 3.3/2.5V CPLD, 160 IOs, 570 Logic Elements, 256-Pin FineLine BGA, Commercial Temperature, Speed Grade 3; Note: Each set of VCCIO pins can be connected to 3.3V, 2.5V, 1.8V, or 1.5V.; Note: All VCCINT pins must be connected to either 3.3V or 2.5V (but not a combination of both).; Published: 15-Jul-2004; LatestRevisionDate: 13-Apr-2006; LatestRevisionNote: IPC-7351 Footprint Added.; DatasheetVersion: ver1.8, Jul-2006; PackageVersion: ver16.0, Dec-2009; PackageReference: FBGA256; Publisher: Altium Limited; PackageDescription: 256-Ball FineLine Ball Grid Array (FBGA256) - Option 1 - Wire Bond; Supplier 1: Digi-Key; Supplier Part Number 1: 544-1294-ND; Code_JEDEC: MS-034-AAF-1; Code_IPC: BGA100P16X16-256; ComponentLink1Description: Manufacturer Link; ComponentLink1URL: http://www.altera.com/products/devices/cpld/max2/mx2-index.jsp; ComponentLink2Description: Handbook; ComponentLink2URL: http://www.altera.com/literature/hb/max2/max2_mii5v1.pdf; ComponentLink3Description: Packaging Specification; ComponentLink3URL: http://www.altera.com/literature/ds/dspkg.pdf
footprint FBGA256 (BGA, 256-Leads, Body 17x17mm, Pitch 1mm)
3D model EPM570-FBGA256 (256-Ball FineLine Ball Grid Array (FBGA256) - Option 1 - Wire Bond)
part A pins: C2 IO (io), C3 IO (io), D1 IO (io), D2 IO (io), D3 IO (io), E1 IO (io), E2 IO (io), E3 IO (io), E4 IO (io), F1 IO (io), F2 IO (io), F3 IO (io), G1 IO (io), G2 IO (io), G3 IO (io), H1 IO (io), H2 IO (io), H3 IO (io), H5 IO/GCLK0 (io), J1 IO (io), J2 IO (io), J3 IO (io), J5 IO/GCLK1 (io), K1 IO (io), K2 IO (io), K3 IO (io), L1 IO (io), L2 IO (io), L3 IO (io), L4 IO (io), M1 IO (io), M2 IO (io), M3 IO (io), M4 IO (io), M8 IO/DEV_OE (io), M9 IO/DEV_CLRn (io), N1 IO (io), N2 IO (io), N3 IO (io), N5 IO (io), N12 IO (io), P2 IO (io), P4 IO (io), P5 IO (io), P6 IO (io), P7 IO (io), P8 IO (io), P9 IO (io), P10 IO (io), P11 IO (io), P12 IO (io), P13 IO (io), R1 IO (io), R3 IO (io), R4 IO (io), R5 IO (io), R6 IO (io), R7 IO (io), R8 IO (io), R9 IO (io), R10 IO (io), R11 IO (io), R12 IO (io), R13 IO (io), R14 IO (io), R16 IO (io), T2 IO (io), T4 IO (io), T5 IO (io), T6 IO (io), T7 IO (io), T8 IO (io), T9 IO (io), T10 IO (io), T11 IO (io), T12 IO (io), T13 IO (io), T15 IO (io)
part B pins: A2 IO (io), A4 IO (io), A5 IO (io), A6 IO (io), A7 IO (io), A8 IO (io), A9 IO (io), A10 IO (io), A11 IO (io), A12 IO (io), A13 IO (io), A15 IO (io), B1 IO (io), B3 IO (io), B4 IO (io), B5 IO (io), B6 IO (io), B7 IO (io), B8 IO (io), B9 IO (io), B10 IO (io), B11 IO (io), B12 IO (io), B13 IO (io), B14 IO (io), B16 IO (io), C4 IO (io), C5 IO (io), C6 IO (io), C7 IO (io), C8 IO (io), C9 IO (io), C10 IO (io), C11 IO (io), C12 IO (io), C13 IO (io), C14 IO (io), C15 IO (io), D4 IO (io), D5 IO (io), D11 IO (io), D12 IO (io), D13 IO (io), D14 IO (io), D15 IO (io), D16 IO (io), E13 IO (io), E14 IO (io), E15 IO (io), E16 IO (io), F13 IO (io), F14 IO (io), F15 IO (io), F16 IO (io), G14 IO (io), G15 IO (io), G16 IO (io), H12 IO/GCLK3 (io), H14 IO (io), H15 IO (io), H16 IO (io), J12 IO/GCLK2 (io), J14 IO (io), J15 IO (io), J16 IO (io), K14 IO (io), K15 IO (io), K16 IO (io), L13 IO (io), L14 IO (io), L15 IO (io), L16 IO (io), M13 IO (io), M14 IO (io), M15 IO (io), M16 IO (io), N13 IO (io), N14 IO (io), N15 IO (io), N16 IO (io), P14 IO (io), P15 IO (io)
part C pins: L6 TDI (in), M5 TDO (out), N4 TMS (in), P3 TCK (in)
part D pins: A3 VCCIO2 (power), A14 VCCIO2 (power), C1 VCCIO1 (power), C16 VCCIO2 (power), F8 VCCIO2 (power), F9 VCCIO2 (power), H6 VCCIO1 (power), H8 VCCINT (power), H10 VCCINT (power), H11 VCCIO2 (power), J6 VCCIO1 (power), J7 VCCINT (power), J9 VCCINT (power), J11 VCCIO2 (power), L8 VCCIO1 (power), L9 VCCIO1 (power), P1 VCCIO1 (power), P16 VCCIO2 (power), T3 VCCIO1 (power), T14 VCCIO1 (power)
part E pins: A1 GNDIO (power), A16 GNDIO (power), B2 GNDIO (power), B15 GNDIO (power), G7 GNDIO (power), G8 GNDIO (power), G9 GNDIO (power), G10 GNDIO (power), H7 GNDINT (power), H9 GNDINT (power), J8 GNDINT (power), J10 GNDINT (power), K7 GNDIO (power), K8 GNDIO (power), K9 GNDIO (power), K10 GNDIO (power), R2 GNDIO (power), R15 GNDIO (power), T1 GNDIO (power), T16 GNDIO (power)
part F pins: D6 NC, D7 NC, D8 NC, D9 NC, D10 NC, E5 NC, E6 NC, E7 NC, E8 NC, E9 NC, E10 NC, E11 NC, E12 NC, F4 NC, F5 NC, F6 NC, F7 NC, F10 NC, F11 NC, F12 NC, G4 NC, G5 NC, G6 NC, G11 NC, G12 NC, G13 NC, H4 NC, H13 NC, J4 NC, J13 NC, K4 NC, K5 NC, K6 NC, K11 NC, K12 NC, K13 NC, L5 NC, L7 NC, L10 NC, L11 NC, L12 NC, M6 NC, M7 NC, M10 NC, M11 NC, M12 NC, N6 NC, N7 NC, N8 NC, N9 NC, N10 NC, N11 NC
part A text: BANK 1
part B text: BANK 2

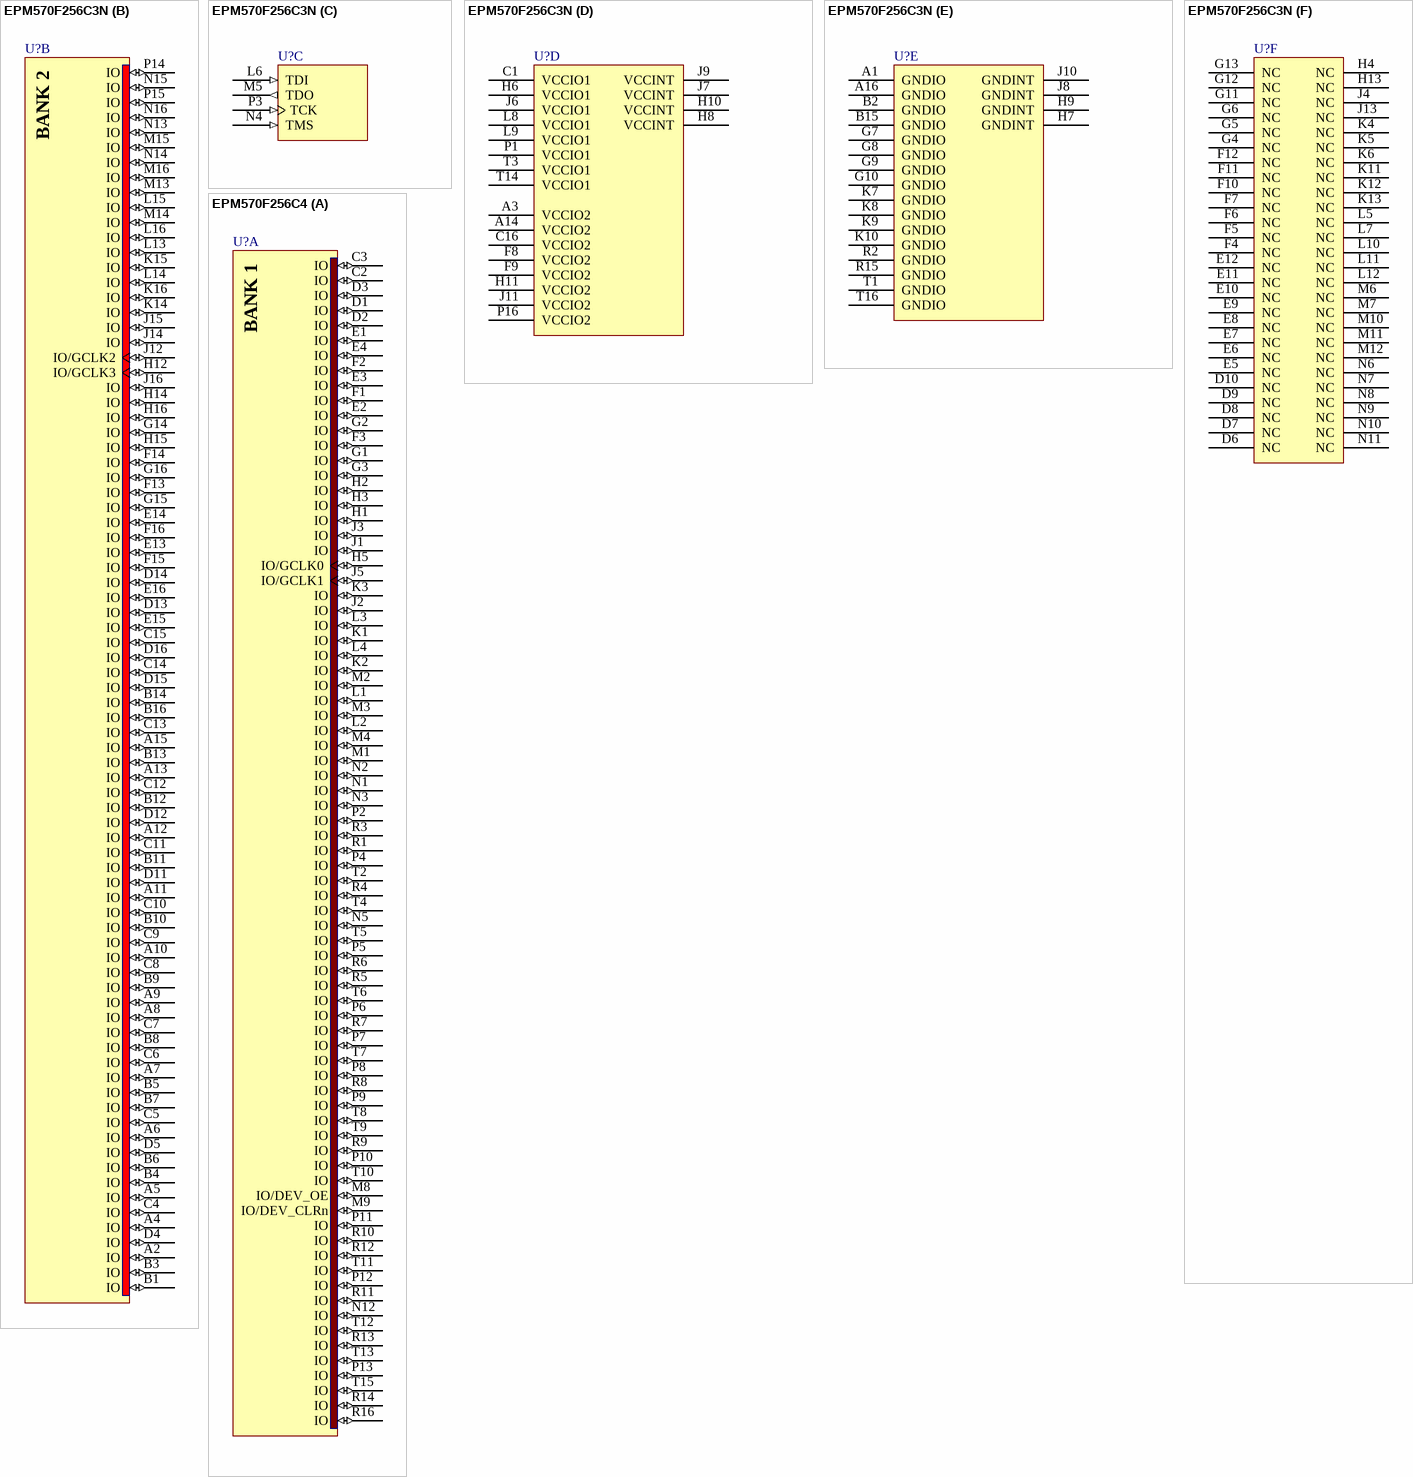
[diagram p20: symbols EPM570F256C3N to EPM570F256C4]

## EPM570F256C3N
designator U?
MAX II 3.3/2.5V CPLD, 160 IOs, 570 Logic Elements, 256-Pin FineLine BGA, Commercial Temperature, Speed Grade 3, Pb-Free; Note: Each set of VCCIO pins can be connected to 3.3V, 2.5V, 1.8V, or 1.5V.; Note: All VCCINT pins must be connected to either 3.3V or 2.5V (but not a combination of both).; Published: 4-Mar-2005; LatestRevisionDate: 13-Apr-2006; LatestRevisionNote: IPC-7351 Footprint Added.; DatasheetVersion: ver1.8, Jul-2006; PackageVersion: ver16.0, Dec-2009; PackageReference: FBGA256; Publisher: Altium Limited; PackageDescription: 256-Ball FineLine Ball Grid Array (FBGA256) - Option 1 - Wire Bond; Supplier 1: Digi-Key; Supplier Part Number 1: 544-1312-ND; Code_JEDEC: MS-034-AAF-1; Code_IPC: BGA100P16X16-256; ComponentLink1Description: Manufacturer Link; ComponentLink1URL: http://www.altera.com/products/devices/cpld/max2/mx2-index.jsp; ComponentLink2Description: Handbook; ComponentLink2URL: http://www.altera.com/literature/hb/max2/max2_mii5v1.pdf; ComponentLink3Description: Packaging Specification; ComponentLink3URL: http://www.altera.com/literature/ds/dspkg.pdf
footprint FBGA256 (BGA, 256-Leads, Body 17x17mm, Pitch 1mm)
3D model EPM570-FBGA256 (256-Ball FineLine Ball Grid Array (FBGA256) - Option 1 - Wire Bond)
part A pins: C2 IO (io), C3 IO (io), D1 IO (io), D2 IO (io), D3 IO (io), E1 IO (io), E2 IO (io), E3 IO (io), E4 IO (io), F1 IO (io), F2 IO (io), F3 IO (io), G1 IO (io), G2 IO (io), G3 IO (io), H1 IO (io), H2 IO (io), H3 IO (io), H5 IO/GCLK0 (io), J1 IO (io), J2 IO (io), J3 IO (io), J5 IO/GCLK1 (io), K1 IO (io), K2 IO (io), K3 IO (io), L1 IO (io), L2 IO (io), L3 IO (io), L4 IO (io), M1 IO (io), M2 IO (io), M3 IO (io), M4 IO (io), M8 IO/DEV_OE (io), M9 IO/DEV_CLRn (io), N1 IO (io), N2 IO (io), N3 IO (io), N5 IO (io), N12 IO (io), P2 IO (io), P4 IO (io), P5 IO (io), P6 IO (io), P7 IO (io), P8 IO (io), P9 IO (io), P10 IO (io), P11 IO (io), P12 IO (io), P13 IO (io), R1 IO (io), R3 IO (io), R4 IO (io), R5 IO (io), R6 IO (io), R7 IO (io), R8 IO (io), R9 IO (io), R10 IO (io), R11 IO (io), R12 IO (io), R13 IO (io), R14 IO (io), R16 IO (io), T2 IO (io), T4 IO (io), T5 IO (io), T6 IO (io), T7 IO (io), T8 IO (io), T9 IO (io), T10 IO (io), T11 IO (io), T12 IO (io), T13 IO (io), T15 IO (io)
part B pins: A2 IO (io), A4 IO (io), A5 IO (io), A6 IO (io), A7 IO (io), A8 IO (io), A9 IO (io), A10 IO (io), A11 IO (io), A12 IO (io), A13 IO (io), A15 IO (io), B1 IO (io), B3 IO (io), B4 IO (io), B5 IO (io), B6 IO (io), B7 IO (io), B8 IO (io), B9 IO (io), B10 IO (io), B11 IO (io), B12 IO (io), B13 IO (io), B14 IO (io), B16 IO (io), C4 IO (io), C5 IO (io), C6 IO (io), C7 IO (io), C8 IO (io), C9 IO (io), C10 IO (io), C11 IO (io), C12 IO (io), C13 IO (io), C14 IO (io), C15 IO (io), D4 IO (io), D5 IO (io), D11 IO (io), D12 IO (io), D13 IO (io), D14 IO (io), D15 IO (io), D16 IO (io), E13 IO (io), E14 IO (io), E15 IO (io), E16 IO (io), F13 IO (io), F14 IO (io), F15 IO (io), F16 IO (io), G14 IO (io), G15 IO (io), G16 IO (io), H12 IO/GCLK3 (io), H14 IO (io), H15 IO (io), H16 IO (io), J12 IO/GCLK2 (io), J14 IO (io), J15 IO (io), J16 IO (io), K14 IO (io), K15 IO (io), K16 IO (io), L13 IO (io), L14 IO (io), L15 IO (io), L16 IO (io), M13 IO (io), M14 IO (io), M15 IO (io), M16 IO (io), N13 IO (io), N14 IO (io), N15 IO (io), N16 IO (io), P14 IO (io), P15 IO (io)
part C pins: L6 TDI (in), M5 TDO (out), N4 TMS (in), P3 TCK (in)
part D pins: A3 VCCIO2 (power), A14 VCCIO2 (power), C1 VCCIO1 (power), C16 VCCIO2 (power), F8 VCCIO2 (power), F9 VCCIO2 (power), H6 VCCIO1 (power), H8 VCCINT (power), H10 VCCINT (power), H11 VCCIO2 (power), J6 VCCIO1 (power), J7 VCCINT (power), J9 VCCINT (power), J11 VCCIO2 (power), L8 VCCIO1 (power), L9 VCCIO1 (power), P1 VCCIO1 (power), P16 VCCIO2 (power), T3 VCCIO1 (power), T14 VCCIO1 (power)
part E pins: A1 GNDIO (power), A16 GNDIO (power), B2 GNDIO (power), B15 GNDIO (power), G7 GNDIO (power), G8 GNDIO (power), G9 GNDIO (power), G10 GNDIO (power), H7 GNDINT (power), H9 GNDINT (power), J8 GNDINT (power), J10 GNDINT (power), K7 GNDIO (power), K8 GNDIO (power), K9 GNDIO (power), K10 GNDIO (power), R2 GNDIO (power), R15 GNDIO (power), T1 GNDIO (power), T16 GNDIO (power)
part F pins: D6 NC, D7 NC, D8 NC, D9 NC, D10 NC, E5 NC, E6 NC, E7 NC, E8 NC, E9 NC, E10 NC, E11 NC, E12 NC, F4 NC, F5 NC, F6 NC, F7 NC, F10 NC, F11 NC, F12 NC, G4 NC, G5 NC, G6 NC, G11 NC, G12 NC, G13 NC, H4 NC, H13 NC, J4 NC, J13 NC, K4 NC, K5 NC, K6 NC, K11 NC, K12 NC, K13 NC, L5 NC, L7 NC, L10 NC, L11 NC, L12 NC, M6 NC, M7 NC, M10 NC, M11 NC, M12 NC, N6 NC, N7 NC, N8 NC, N9 NC, N10 NC, N11 NC
part A text: BANK 1
part B text: BANK 2

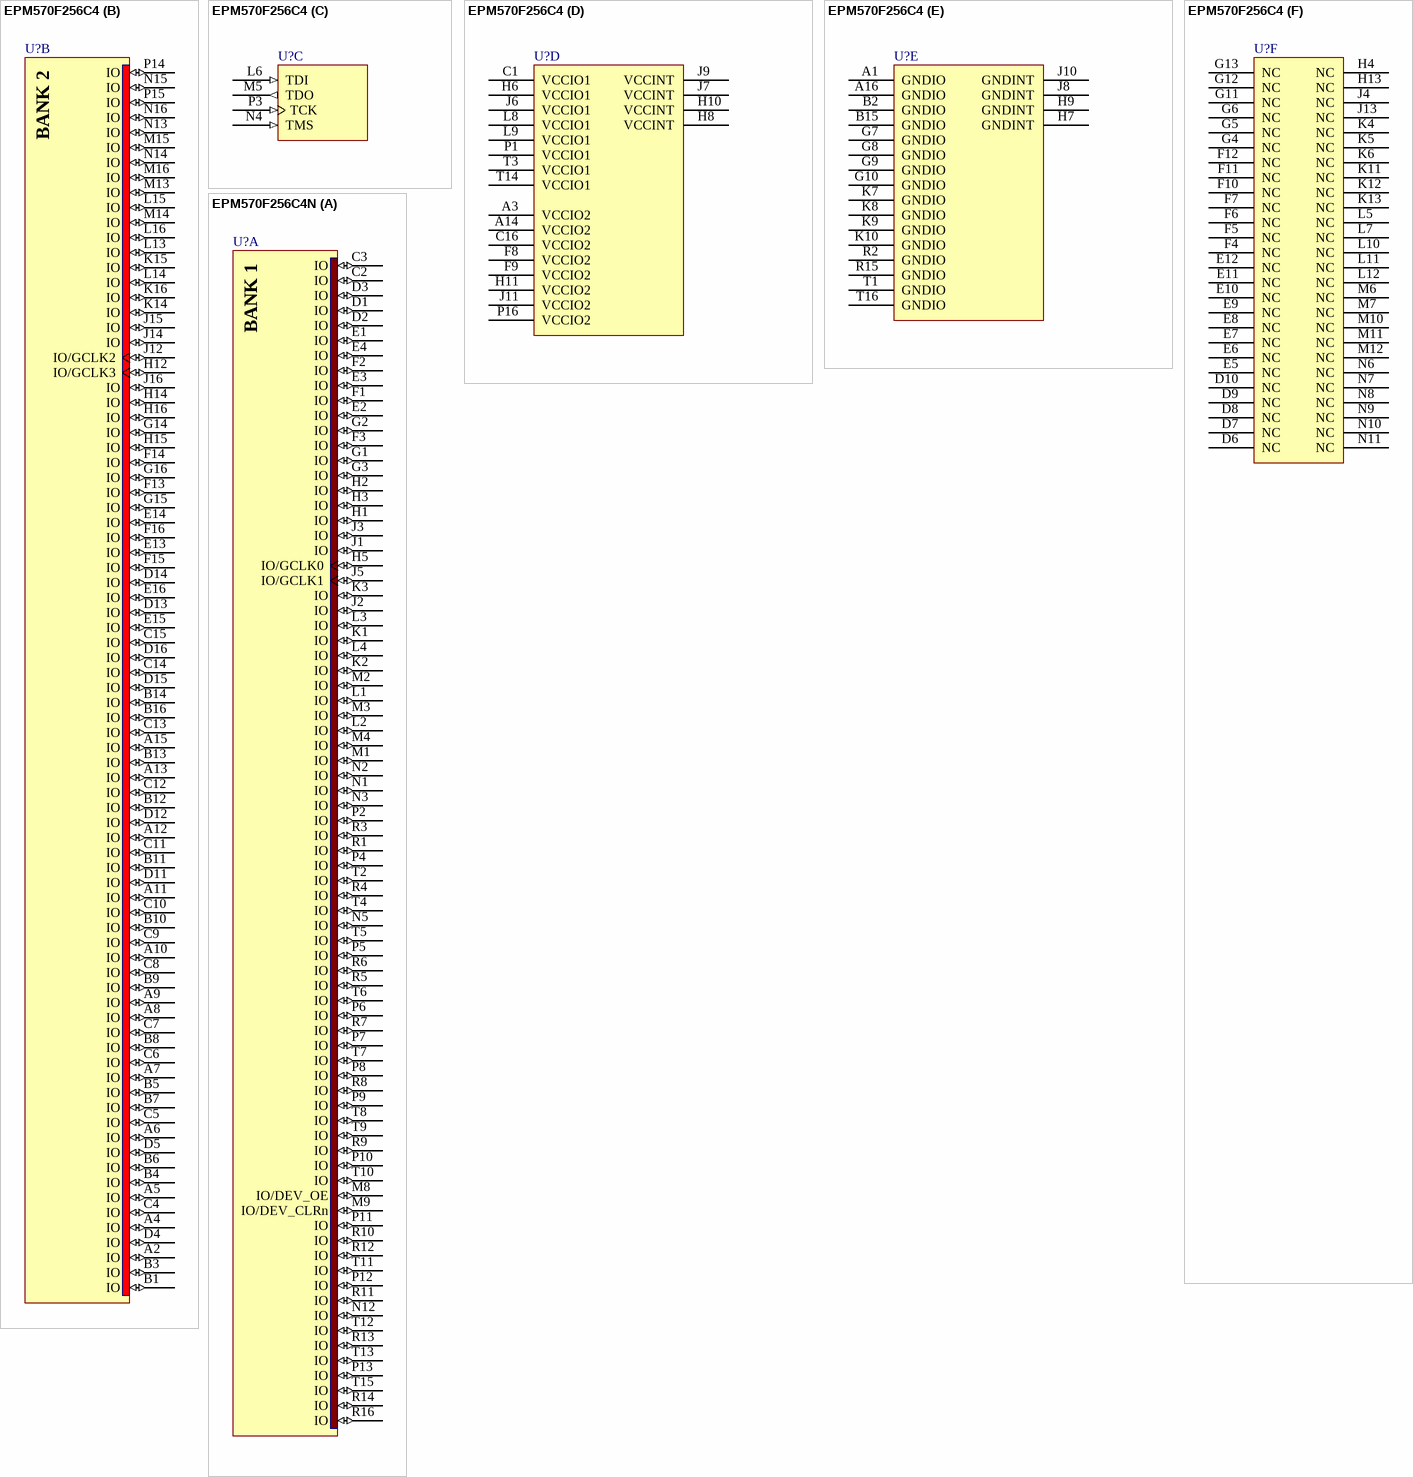
[diagram p21: symbols EPM570F256C4 to EPM570F256C4N]

## EPM570F256C4
designator U?
MAX II 3.3/2.5V CPLD, 160 IOs, 570 Logic Elements, 256-Pin FineLine BGA, Commercial Temperature, Speed Grade 4; Note: Each set of VCCIO pins can be connected to 3.3V, 2.5V, 1.8V, or 1.5V.; Note: All VCCINT pins must be connected to either 3.3V or 2.5V (but not a combination of both).; Published: 15-Jul-2004; LatestRevisionDate: 13-Apr-2006; LatestRevisionNote: IPC-7351 Footprint Added.; DatasheetVersion: ver1.8, Jul-2006; PackageVersion: ver16.0, Dec-2009; PackageReference: FBGA256; Publisher: Altium Limited; PackageDescription: 256-Ball FineLine Ball Grid Array (FBGA256) - Option 1 - Wire Bond; Supplier 1: Digi-Key; Supplier Part Number 1: 544-1295-ND; Code_JEDEC: MS-034-AAF-1; Code_IPC: BGA100P16X16-256; ComponentLink1Description: Manufacturer Link; ComponentLink1URL: http://www.altera.com/products/devices/cpld/max2/mx2-index.jsp; ComponentLink2Description: Handbook; ComponentLink2URL: http://www.altera.com/literature/hb/max2/max2_mii5v1.pdf; ComponentLink3Description: Packaging Specification; ComponentLink3URL: http://www.altera.com/literature/ds/dspkg.pdf
footprint FBGA256 (BGA, 256-Leads, Body 17x17mm, Pitch 1mm)
3D model EPM570-FBGA256 (256-Ball FineLine Ball Grid Array (FBGA256) - Option 1 - Wire Bond)
part A pins: C2 IO (io), C3 IO (io), D1 IO (io), D2 IO (io), D3 IO (io), E1 IO (io), E2 IO (io), E3 IO (io), E4 IO (io), F1 IO (io), F2 IO (io), F3 IO (io), G1 IO (io), G2 IO (io), G3 IO (io), H1 IO (io), H2 IO (io), H3 IO (io), H5 IO/GCLK0 (io), J1 IO (io), J2 IO (io), J3 IO (io), J5 IO/GCLK1 (io), K1 IO (io), K2 IO (io), K3 IO (io), L1 IO (io), L2 IO (io), L3 IO (io), L4 IO (io), M1 IO (io), M2 IO (io), M3 IO (io), M4 IO (io), M8 IO/DEV_OE (io), M9 IO/DEV_CLRn (io), N1 IO (io), N2 IO (io), N3 IO (io), N5 IO (io), N12 IO (io), P2 IO (io), P4 IO (io), P5 IO (io), P6 IO (io), P7 IO (io), P8 IO (io), P9 IO (io), P10 IO (io), P11 IO (io), P12 IO (io), P13 IO (io), R1 IO (io), R3 IO (io), R4 IO (io), R5 IO (io), R6 IO (io), R7 IO (io), R8 IO (io), R9 IO (io), R10 IO (io), R11 IO (io), R12 IO (io), R13 IO (io), R14 IO (io), R16 IO (io), T2 IO (io), T4 IO (io), T5 IO (io), T6 IO (io), T7 IO (io), T8 IO (io), T9 IO (io), T10 IO (io), T11 IO (io), T12 IO (io), T13 IO (io), T15 IO (io)
part B pins: A2 IO (io), A4 IO (io), A5 IO (io), A6 IO (io), A7 IO (io), A8 IO (io), A9 IO (io), A10 IO (io), A11 IO (io), A12 IO (io), A13 IO (io), A15 IO (io), B1 IO (io), B3 IO (io), B4 IO (io), B5 IO (io), B6 IO (io), B7 IO (io), B8 IO (io), B9 IO (io), B10 IO (io), B11 IO (io), B12 IO (io), B13 IO (io), B14 IO (io), B16 IO (io), C4 IO (io), C5 IO (io), C6 IO (io), C7 IO (io), C8 IO (io), C9 IO (io), C10 IO (io), C11 IO (io), C12 IO (io), C13 IO (io), C14 IO (io), C15 IO (io), D4 IO (io), D5 IO (io), D11 IO (io), D12 IO (io), D13 IO (io), D14 IO (io), D15 IO (io), D16 IO (io), E13 IO (io), E14 IO (io), E15 IO (io), E16 IO (io), F13 IO (io), F14 IO (io), F15 IO (io), F16 IO (io), G14 IO (io), G15 IO (io), G16 IO (io), H12 IO/GCLK3 (io), H14 IO (io), H15 IO (io), H16 IO (io), J12 IO/GCLK2 (io), J14 IO (io), J15 IO (io), J16 IO (io), K14 IO (io), K15 IO (io), K16 IO (io), L13 IO (io), L14 IO (io), L15 IO (io), L16 IO (io), M13 IO (io), M14 IO (io), M15 IO (io), M16 IO (io), N13 IO (io), N14 IO (io), N15 IO (io), N16 IO (io), P14 IO (io), P15 IO (io)
part C pins: L6 TDI (in), M5 TDO (out), N4 TMS (in), P3 TCK (in)
part D pins: A3 VCCIO2 (power), A14 VCCIO2 (power), C1 VCCIO1 (power), C16 VCCIO2 (power), F8 VCCIO2 (power), F9 VCCIO2 (power), H6 VCCIO1 (power), H8 VCCINT (power), H10 VCCINT (power), H11 VCCIO2 (power), J6 VCCIO1 (power), J7 VCCINT (power), J9 VCCINT (power), J11 VCCIO2 (power), L8 VCCIO1 (power), L9 VCCIO1 (power), P1 VCCIO1 (power), P16 VCCIO2 (power), T3 VCCIO1 (power), T14 VCCIO1 (power)
part E pins: A1 GNDIO (power), A16 GNDIO (power), B2 GNDIO (power), B15 GNDIO (power), G7 GNDIO (power), G8 GNDIO (power), G9 GNDIO (power), G10 GNDIO (power), H7 GNDINT (power), H9 GNDINT (power), J8 GNDINT (power), J10 GNDINT (power), K7 GNDIO (power), K8 GNDIO (power), K9 GNDIO (power), K10 GNDIO (power), R2 GNDIO (power), R15 GNDIO (power), T1 GNDIO (power), T16 GNDIO (power)
part F pins: D6 NC, D7 NC, D8 NC, D9 NC, D10 NC, E5 NC, E6 NC, E7 NC, E8 NC, E9 NC, E10 NC, E11 NC, E12 NC, F4 NC, F5 NC, F6 NC, F7 NC, F10 NC, F11 NC, F12 NC, G4 NC, G5 NC, G6 NC, G11 NC, G12 NC, G13 NC, H4 NC, H13 NC, J4 NC, J13 NC, K4 NC, K5 NC, K6 NC, K11 NC, K12 NC, K13 NC, L5 NC, L7 NC, L10 NC, L11 NC, L12 NC, M6 NC, M7 NC, M10 NC, M11 NC, M12 NC, N6 NC, N7 NC, N8 NC, N9 NC, N10 NC, N11 NC
part A text: BANK 1
part B text: BANK 2

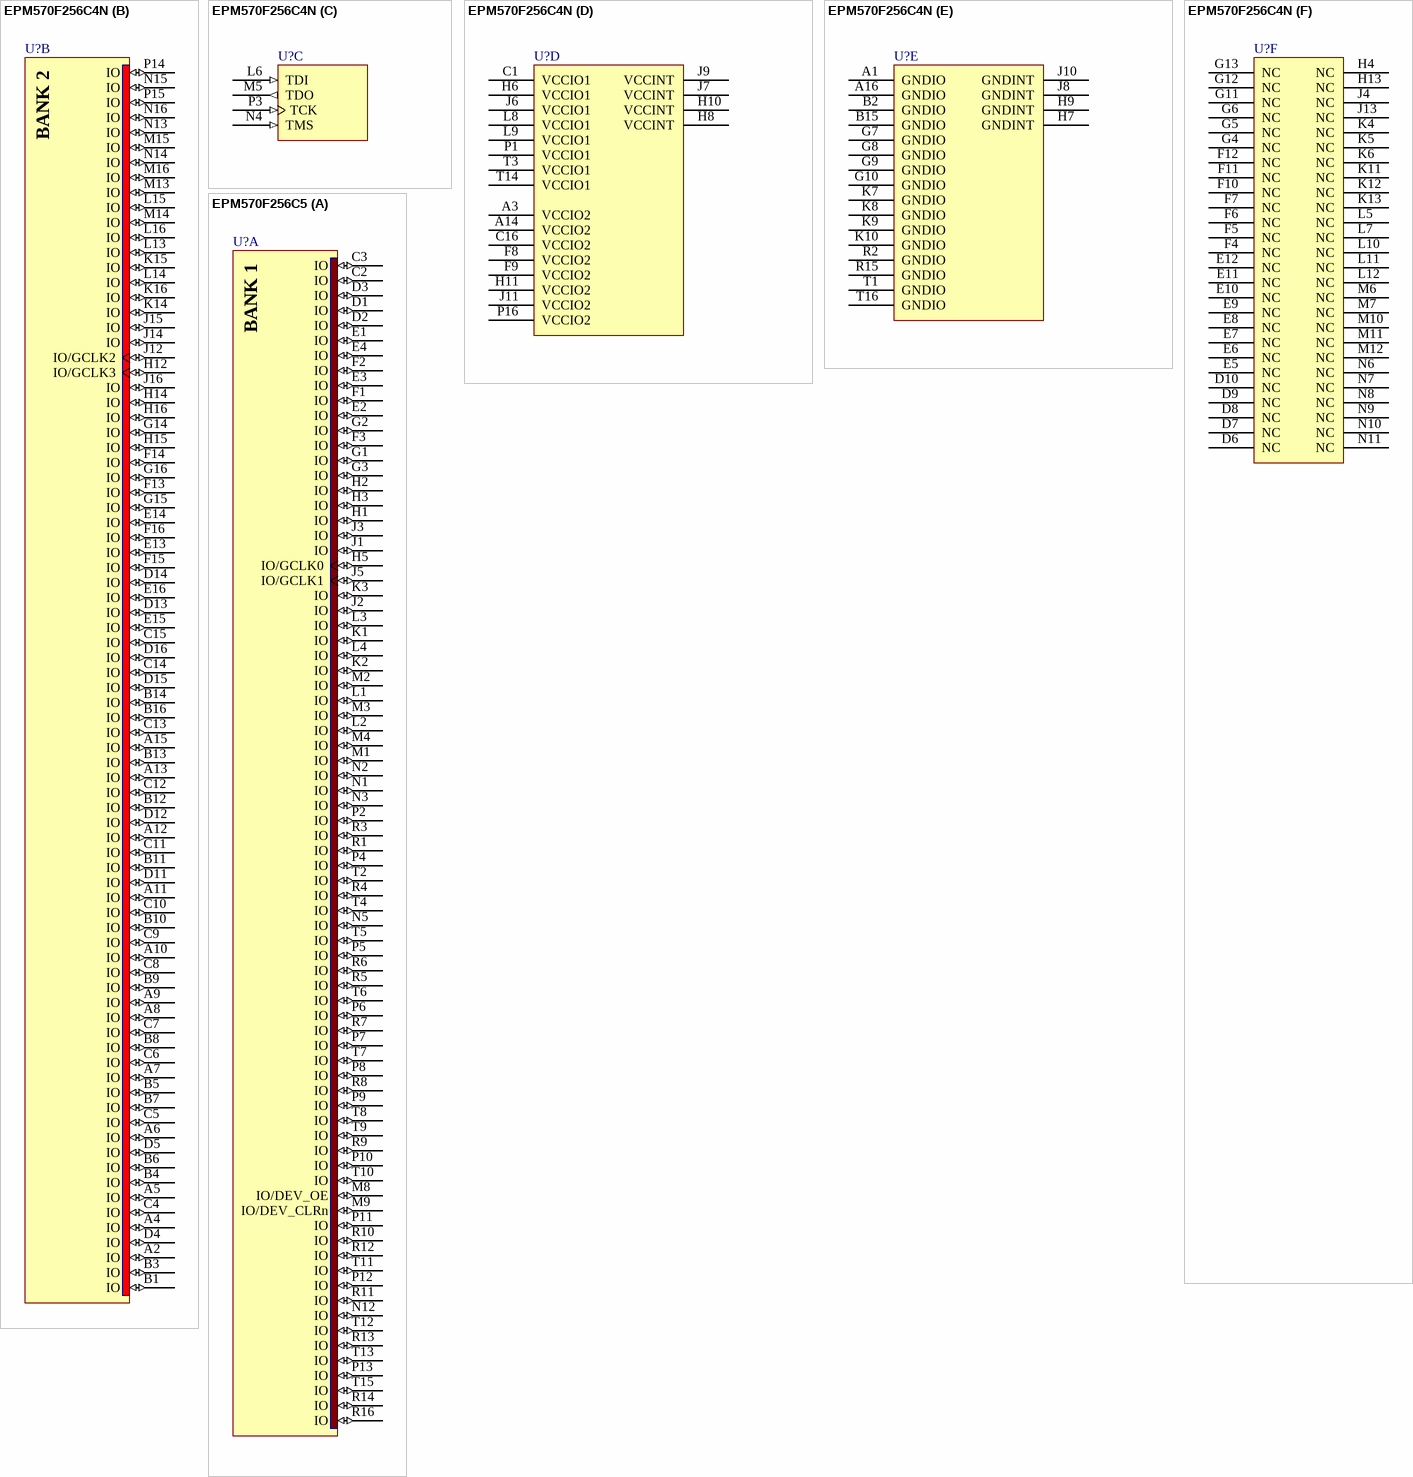
[diagram p22: symbols EPM570F256C4N to EPM570F256C5]

## EPM570F256C4N
designator U?
MAX II 3.3/2.5V CPLD, 160 IOs, 570 Logic Elements, 256-Pin FineLine BGA, Commercial Temperature, Speed Grade 4, Pb-Free; Note: Each set of VCCIO pins can be connected to 3.3V, 2.5V, 1.8V, or 1.5V.; Note: All VCCINT pins must be connected to either 3.3V or 2.5V (but not a combination of both).; Published: 4-Mar-2005; LatestRevisionDate: 13-Apr-2006; LatestRevisionNote: IPC-7351 Footprint Added.; DatasheetVersion: ver1.8, Jul-2006; PackageVersion: ver16.0, Dec-2009; PackageReference: FBGA256; Publisher: Altium Limited; PackageDescription: 256-Ball FineLine Ball Grid Array (FBGA256) - Option 1 - Wire Bond; Supplier 1: Digi-Key; Supplier Part Number 1: 544-1313-ND; Supplier 2: Farnell; Supplier Part Number 2: 1453479; Code_JEDEC: MS-034-AAF-1; Code_IPC: BGA100P16X16-256; ComponentLink1Description: Manufacturer Link; ComponentLink1URL: http://www.altera.com/products/devices/cpld/max2/mx2-index.jsp; ComponentLink2Description: Handbook; ComponentLink2URL: http://www.altera.com/literature/hb/max2/max2_mii5v1.pdf; ComponentLink3Description: Packaging Specification; ComponentLink3URL: http://www.altera.com/literature/ds/dspkg.pdf
footprint FBGA256 (BGA, 256-Leads, Body 17x17mm, Pitch 1mm)
3D model EPM570-FBGA256 (256-Ball FineLine Ball Grid Array (FBGA256) - Option 1 - Wire Bond)
part A pins: C2 IO (io), C3 IO (io), D1 IO (io), D2 IO (io), D3 IO (io), E1 IO (io), E2 IO (io), E3 IO (io), E4 IO (io), F1 IO (io), F2 IO (io), F3 IO (io), G1 IO (io), G2 IO (io), G3 IO (io), H1 IO (io), H2 IO (io), H3 IO (io), H5 IO/GCLK0 (io), J1 IO (io), J2 IO (io), J3 IO (io), J5 IO/GCLK1 (io), K1 IO (io), K2 IO (io), K3 IO (io), L1 IO (io), L2 IO (io), L3 IO (io), L4 IO (io), M1 IO (io), M2 IO (io), M3 IO (io), M4 IO (io), M8 IO/DEV_OE (io), M9 IO/DEV_CLRn (io), N1 IO (io), N2 IO (io), N3 IO (io), N5 IO (io), N12 IO (io), P2 IO (io), P4 IO (io), P5 IO (io), P6 IO (io), P7 IO (io), P8 IO (io), P9 IO (io), P10 IO (io), P11 IO (io), P12 IO (io), P13 IO (io), R1 IO (io), R3 IO (io), R4 IO (io), R5 IO (io), R6 IO (io), R7 IO (io), R8 IO (io), R9 IO (io), R10 IO (io), R11 IO (io), R12 IO (io), R13 IO (io), R14 IO (io), R16 IO (io), T2 IO (io), T4 IO (io), T5 IO (io), T6 IO (io), T7 IO (io), T8 IO (io), T9 IO (io), T10 IO (io), T11 IO (io), T12 IO (io), T13 IO (io), T15 IO (io)
part B pins: A2 IO (io), A4 IO (io), A5 IO (io), A6 IO (io), A7 IO (io), A8 IO (io), A9 IO (io), A10 IO (io), A11 IO (io), A12 IO (io), A13 IO (io), A15 IO (io), B1 IO (io), B3 IO (io), B4 IO (io), B5 IO (io), B6 IO (io), B7 IO (io), B8 IO (io), B9 IO (io), B10 IO (io), B11 IO (io), B12 IO (io), B13 IO (io), B14 IO (io), B16 IO (io), C4 IO (io), C5 IO (io), C6 IO (io), C7 IO (io), C8 IO (io), C9 IO (io), C10 IO (io), C11 IO (io), C12 IO (io), C13 IO (io), C14 IO (io), C15 IO (io), D4 IO (io), D5 IO (io), D11 IO (io), D12 IO (io), D13 IO (io), D14 IO (io), D15 IO (io), D16 IO (io), E13 IO (io), E14 IO (io), E15 IO (io), E16 IO (io), F13 IO (io), F14 IO (io), F15 IO (io), F16 IO (io), G14 IO (io), G15 IO (io), G16 IO (io), H12 IO/GCLK3 (io), H14 IO (io), H15 IO (io), H16 IO (io), J12 IO/GCLK2 (io), J14 IO (io), J15 IO (io), J16 IO (io), K14 IO (io), K15 IO (io), K16 IO (io), L13 IO (io), L14 IO (io), L15 IO (io), L16 IO (io), M13 IO (io), M14 IO (io), M15 IO (io), M16 IO (io), N13 IO (io), N14 IO (io), N15 IO (io), N16 IO (io), P14 IO (io), P15 IO (io)
part C pins: L6 TDI (in), M5 TDO (out), N4 TMS (in), P3 TCK (in)
part D pins: A3 VCCIO2 (power), A14 VCCIO2 (power), C1 VCCIO1 (power), C16 VCCIO2 (power), F8 VCCIO2 (power), F9 VCCIO2 (power), H6 VCCIO1 (power), H8 VCCINT (power), H10 VCCINT (power), H11 VCCIO2 (power), J6 VCCIO1 (power), J7 VCCINT (power), J9 VCCINT (power), J11 VCCIO2 (power), L8 VCCIO1 (power), L9 VCCIO1 (power), P1 VCCIO1 (power), P16 VCCIO2 (power), T3 VCCIO1 (power), T14 VCCIO1 (power)
part E pins: A1 GNDIO (power), A16 GNDIO (power), B2 GNDIO (power), B15 GNDIO (power), G7 GNDIO (power), G8 GNDIO (power), G9 GNDIO (power), G10 GNDIO (power), H7 GNDINT (power), H9 GNDINT (power), J8 GNDINT (power), J10 GNDINT (power), K7 GNDIO (power), K8 GNDIO (power), K9 GNDIO (power), K10 GNDIO (power), R2 GNDIO (power), R15 GNDIO (power), T1 GNDIO (power), T16 GNDIO (power)
part F pins: D6 NC, D7 NC, D8 NC, D9 NC, D10 NC, E5 NC, E6 NC, E7 NC, E8 NC, E9 NC, E10 NC, E11 NC, E12 NC, F4 NC, F5 NC, F6 NC, F7 NC, F10 NC, F11 NC, F12 NC, G4 NC, G5 NC, G6 NC, G11 NC, G12 NC, G13 NC, H4 NC, H13 NC, J4 NC, J13 NC, K4 NC, K5 NC, K6 NC, K11 NC, K12 NC, K13 NC, L5 NC, L7 NC, L10 NC, L11 NC, L12 NC, M6 NC, M7 NC, M10 NC, M11 NC, M12 NC, N6 NC, N7 NC, N8 NC, N9 NC, N10 NC, N11 NC
part A text: BANK 1
part B text: BANK 2

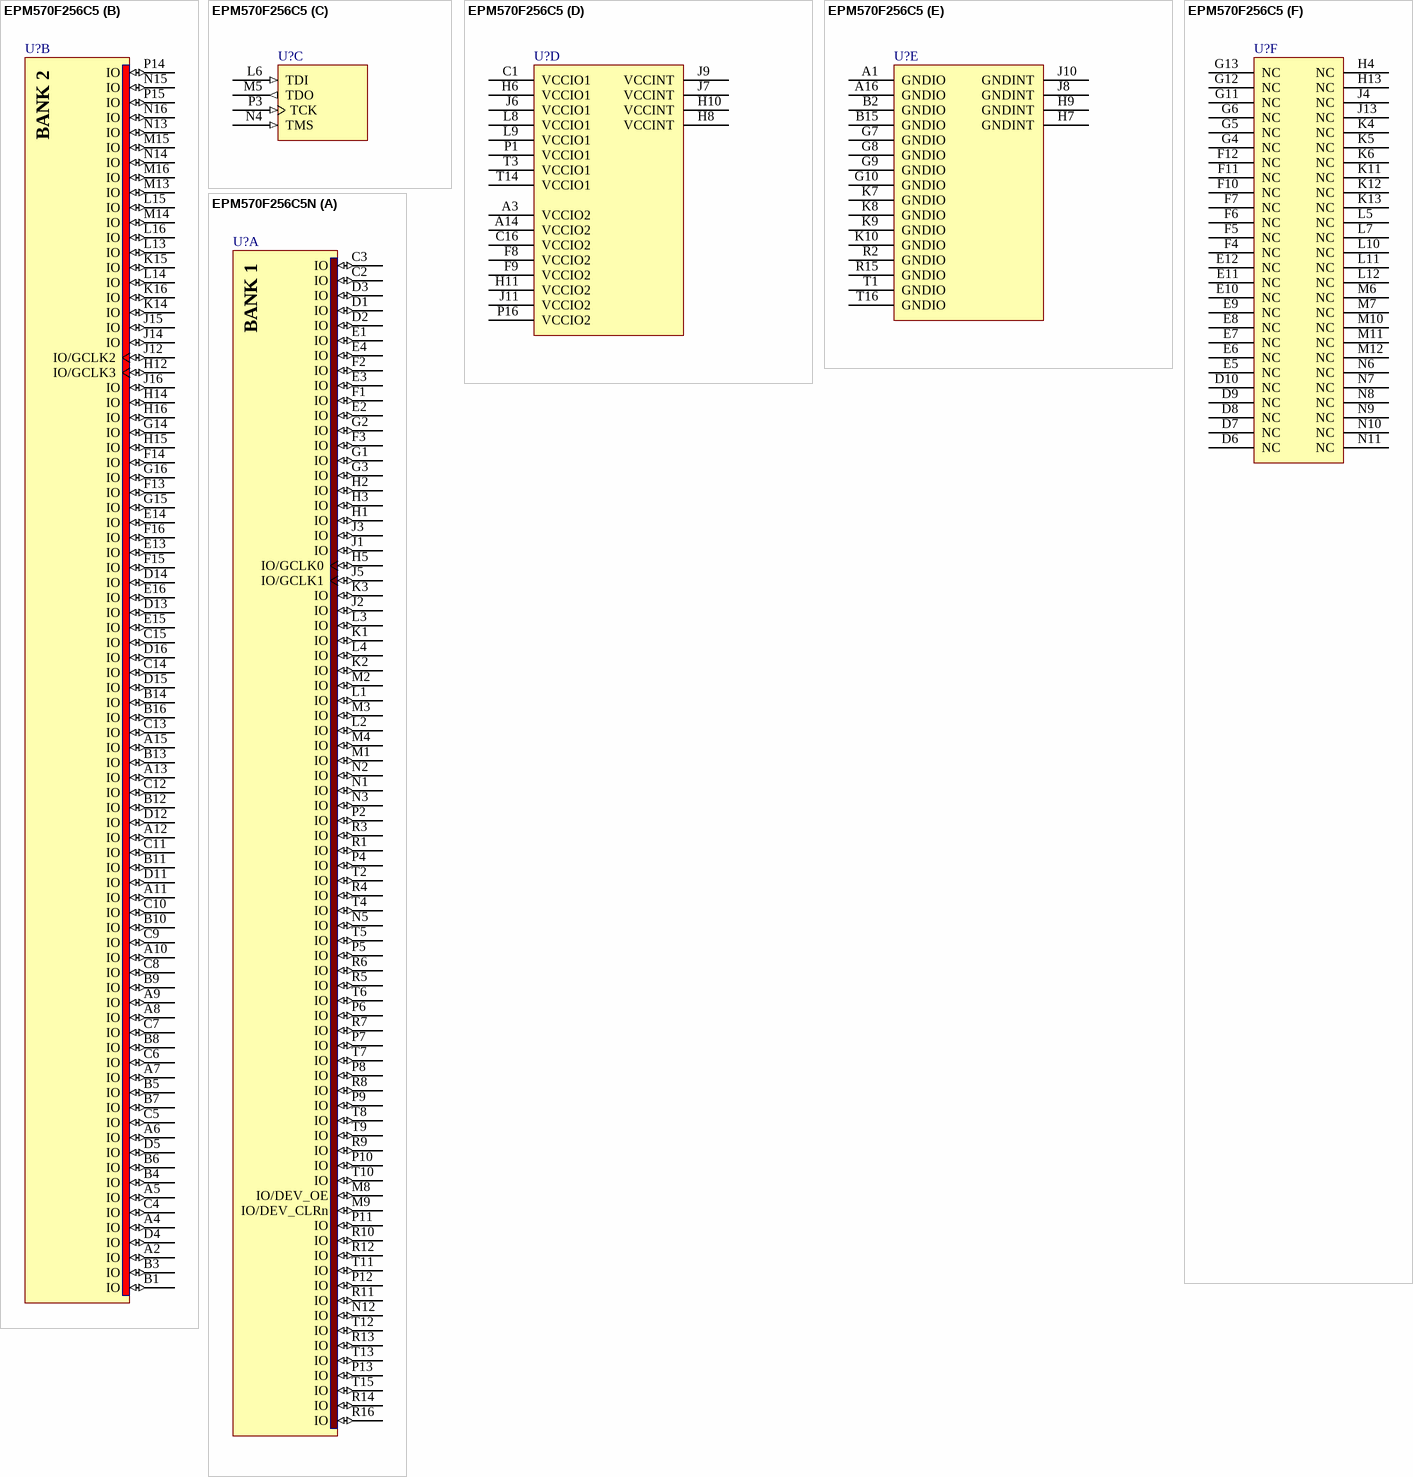
[diagram p23: symbols EPM570F256C5 to EPM570F256C5N]

## EPM570F256C5
designator U?
MAX II 3.3/2.5V CPLD, 160 IOs, 570 Logic Elements, 256-Pin FineLine BGA, Commercial Temperature, Speed Grade 5; Note: Each set of VCCIO pins can be connected to 3.3V, 2.5V, 1.8V, or 1.5V.; Note: All VCCINT pins must be connected to either 3.3V or 2.5V (but not a combination of both).; Published: 15-Jul-2004; LatestRevisionDate: 13-Apr-2006; LatestRevisionNote: IPC-7351 Footprint Added.; DatasheetVersion: ver1.8, Jul-2006; PackageVersion: ver16.0, Dec-2009; PackageReference: FBGA256; Publisher: Altium Limited; PackageDescription: 256-Ball FineLine Ball Grid Array (FBGA256) - Option 1 - Wire Bond; Supplier 1: Digi-Key; Supplier Part Number 1: 544-1296-ND; Code_JEDEC: MS-034-AAF-1; Code_IPC: BGA100P16X16-256; ComponentLink1Description: Manufacturer Link; ComponentLink1URL: http://www.altera.com/products/devices/cpld/max2/mx2-index.jsp; ComponentLink2Description: Handbook; ComponentLink2URL: http://www.altera.com/literature/hb/max2/max2_mii5v1.pdf; ComponentLink3Description: Packaging Specification; ComponentLink3URL: http://www.altera.com/literature/ds/dspkg.pdf
footprint FBGA256 (BGA, 256-Leads, Body 17x17mm, Pitch 1mm)
3D model EPM570-FBGA256 (256-Ball FineLine Ball Grid Array (FBGA256) - Option 1 - Wire Bond)
part A pins: C2 IO (io), C3 IO (io), D1 IO (io), D2 IO (io), D3 IO (io), E1 IO (io), E2 IO (io), E3 IO (io), E4 IO (io), F1 IO (io), F2 IO (io), F3 IO (io), G1 IO (io), G2 IO (io), G3 IO (io), H1 IO (io), H2 IO (io), H3 IO (io), H5 IO/GCLK0 (io), J1 IO (io), J2 IO (io), J3 IO (io), J5 IO/GCLK1 (io), K1 IO (io), K2 IO (io), K3 IO (io), L1 IO (io), L2 IO (io), L3 IO (io), L4 IO (io), M1 IO (io), M2 IO (io), M3 IO (io), M4 IO (io), M8 IO/DEV_OE (io), M9 IO/DEV_CLRn (io), N1 IO (io), N2 IO (io), N3 IO (io), N5 IO (io), N12 IO (io), P2 IO (io), P4 IO (io), P5 IO (io), P6 IO (io), P7 IO (io), P8 IO (io), P9 IO (io), P10 IO (io), P11 IO (io), P12 IO (io), P13 IO (io), R1 IO (io), R3 IO (io), R4 IO (io), R5 IO (io), R6 IO (io), R7 IO (io), R8 IO (io), R9 IO (io), R10 IO (io), R11 IO (io), R12 IO (io), R13 IO (io), R14 IO (io), R16 IO (io), T2 IO (io), T4 IO (io), T5 IO (io), T6 IO (io), T7 IO (io), T8 IO (io), T9 IO (io), T10 IO (io), T11 IO (io), T12 IO (io), T13 IO (io), T15 IO (io)
part B pins: A2 IO (io), A4 IO (io), A5 IO (io), A6 IO (io), A7 IO (io), A8 IO (io), A9 IO (io), A10 IO (io), A11 IO (io), A12 IO (io), A13 IO (io), A15 IO (io), B1 IO (io), B3 IO (io), B4 IO (io), B5 IO (io), B6 IO (io), B7 IO (io), B8 IO (io), B9 IO (io), B10 IO (io), B11 IO (io), B12 IO (io), B13 IO (io), B14 IO (io), B16 IO (io), C4 IO (io), C5 IO (io), C6 IO (io), C7 IO (io), C8 IO (io), C9 IO (io), C10 IO (io), C11 IO (io), C12 IO (io), C13 IO (io), C14 IO (io), C15 IO (io), D4 IO (io), D5 IO (io), D11 IO (io), D12 IO (io), D13 IO (io), D14 IO (io), D15 IO (io), D16 IO (io), E13 IO (io), E14 IO (io), E15 IO (io), E16 IO (io), F13 IO (io), F14 IO (io), F15 IO (io), F16 IO (io), G14 IO (io), G15 IO (io), G16 IO (io), H12 IO/GCLK3 (io), H14 IO (io), H15 IO (io), H16 IO (io), J12 IO/GCLK2 (io), J14 IO (io), J15 IO (io), J16 IO (io), K14 IO (io), K15 IO (io), K16 IO (io), L13 IO (io), L14 IO (io), L15 IO (io), L16 IO (io), M13 IO (io), M14 IO (io), M15 IO (io), M16 IO (io), N13 IO (io), N14 IO (io), N15 IO (io), N16 IO (io), P14 IO (io), P15 IO (io)
part C pins: L6 TDI (in), M5 TDO (out), N4 TMS (in), P3 TCK (in)
part D pins: A3 VCCIO2 (power), A14 VCCIO2 (power), C1 VCCIO1 (power), C16 VCCIO2 (power), F8 VCCIO2 (power), F9 VCCIO2 (power), H6 VCCIO1 (power), H8 VCCINT (power), H10 VCCINT (power), H11 VCCIO2 (power), J6 VCCIO1 (power), J7 VCCINT (power), J9 VCCINT (power), J11 VCCIO2 (power), L8 VCCIO1 (power), L9 VCCIO1 (power), P1 VCCIO1 (power), P16 VCCIO2 (power), T3 VCCIO1 (power), T14 VCCIO1 (power)
part E pins: A1 GNDIO (power), A16 GNDIO (power), B2 GNDIO (power), B15 GNDIO (power), G7 GNDIO (power), G8 GNDIO (power), G9 GNDIO (power), G10 GNDIO (power), H7 GNDINT (power), H9 GNDINT (power), J8 GNDINT (power), J10 GNDINT (power), K7 GNDIO (power), K8 GNDIO (power), K9 GNDIO (power), K10 GNDIO (power), R2 GNDIO (power), R15 GNDIO (power), T1 GNDIO (power), T16 GNDIO (power)
part F pins: D6 NC, D7 NC, D8 NC, D9 NC, D10 NC, E5 NC, E6 NC, E7 NC, E8 NC, E9 NC, E10 NC, E11 NC, E12 NC, F4 NC, F5 NC, F6 NC, F7 NC, F10 NC, F11 NC, F12 NC, G4 NC, G5 NC, G6 NC, G11 NC, G12 NC, G13 NC, H4 NC, H13 NC, J4 NC, J13 NC, K4 NC, K5 NC, K6 NC, K11 NC, K12 NC, K13 NC, L5 NC, L7 NC, L10 NC, L11 NC, L12 NC, M6 NC, M7 NC, M10 NC, M11 NC, M12 NC, N6 NC, N7 NC, N8 NC, N9 NC, N10 NC, N11 NC
part A text: BANK 1
part B text: BANK 2

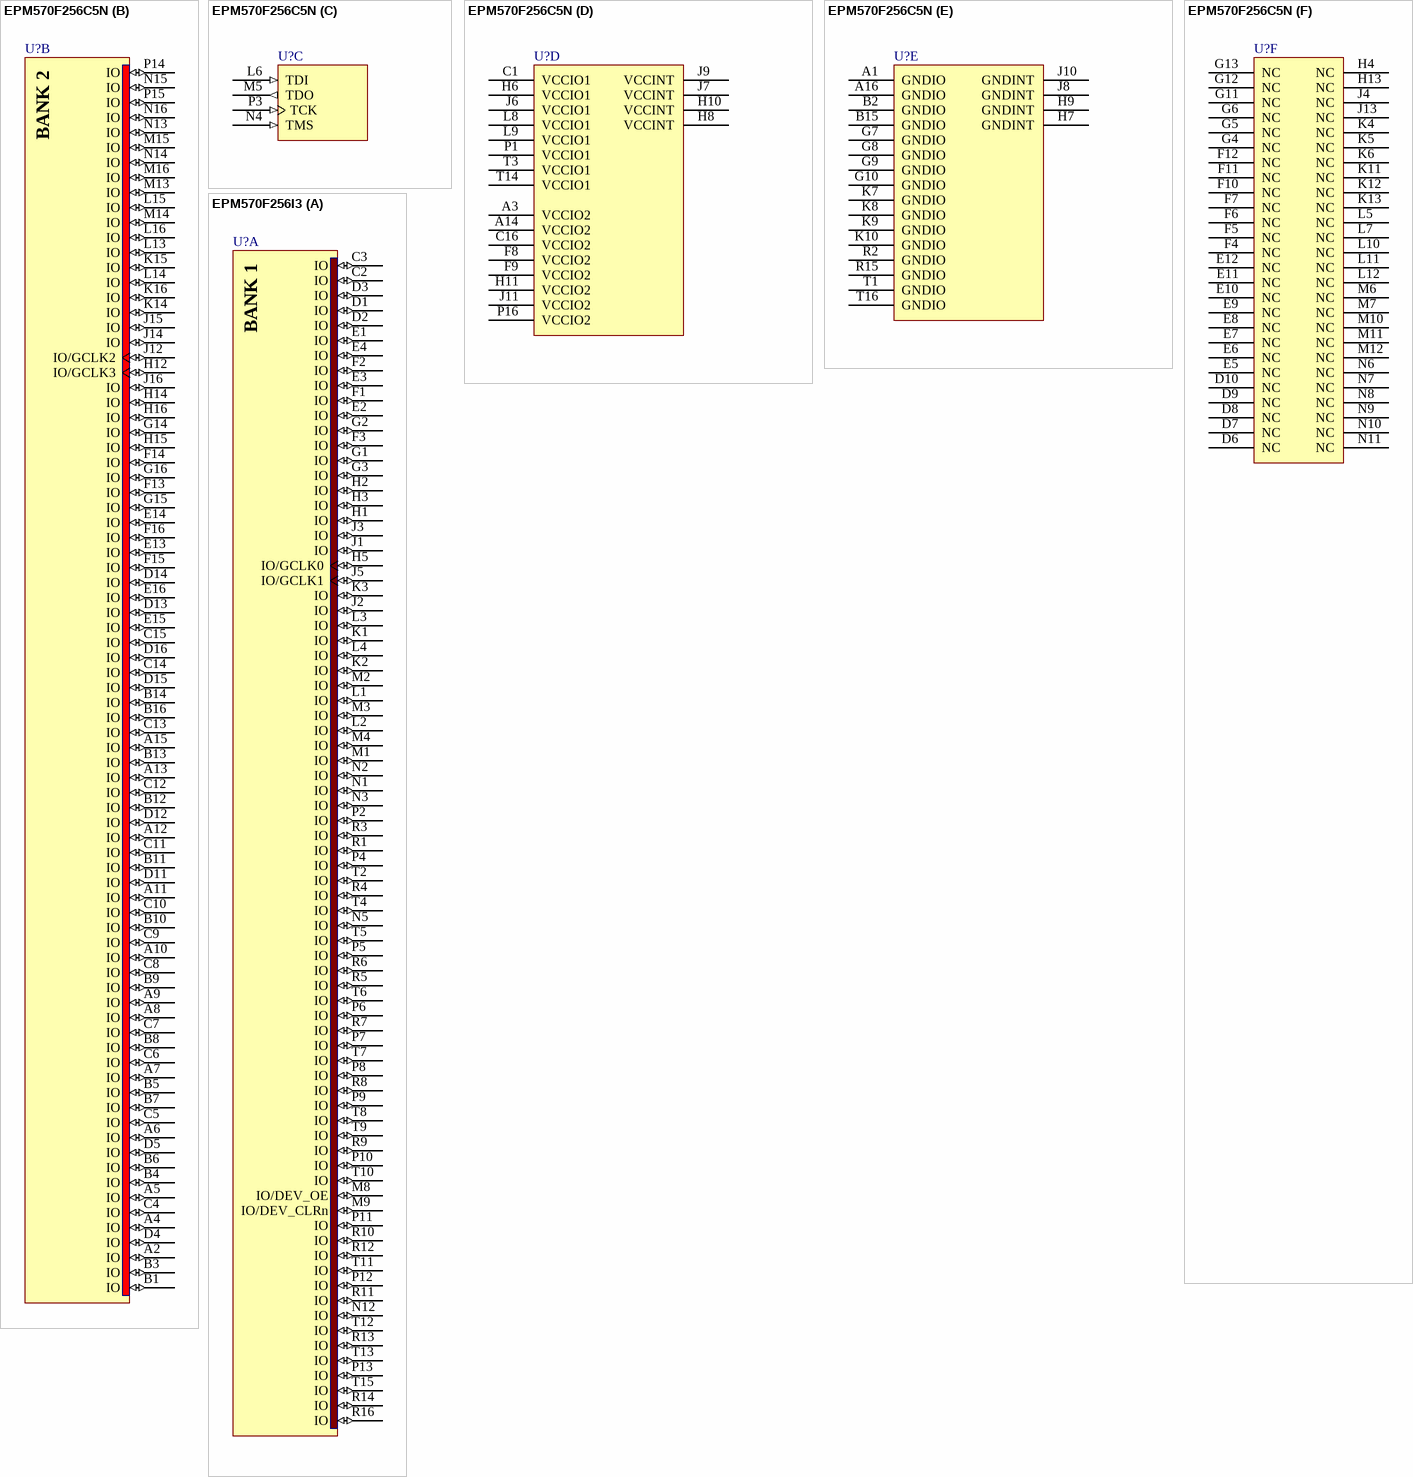
[diagram p24: symbols EPM570F256C5N to EPM570F256I3]